# Altium integrated library Xilinx CoolRunner XPLA3.IntLib: 110 symbols (part 2 of 7)
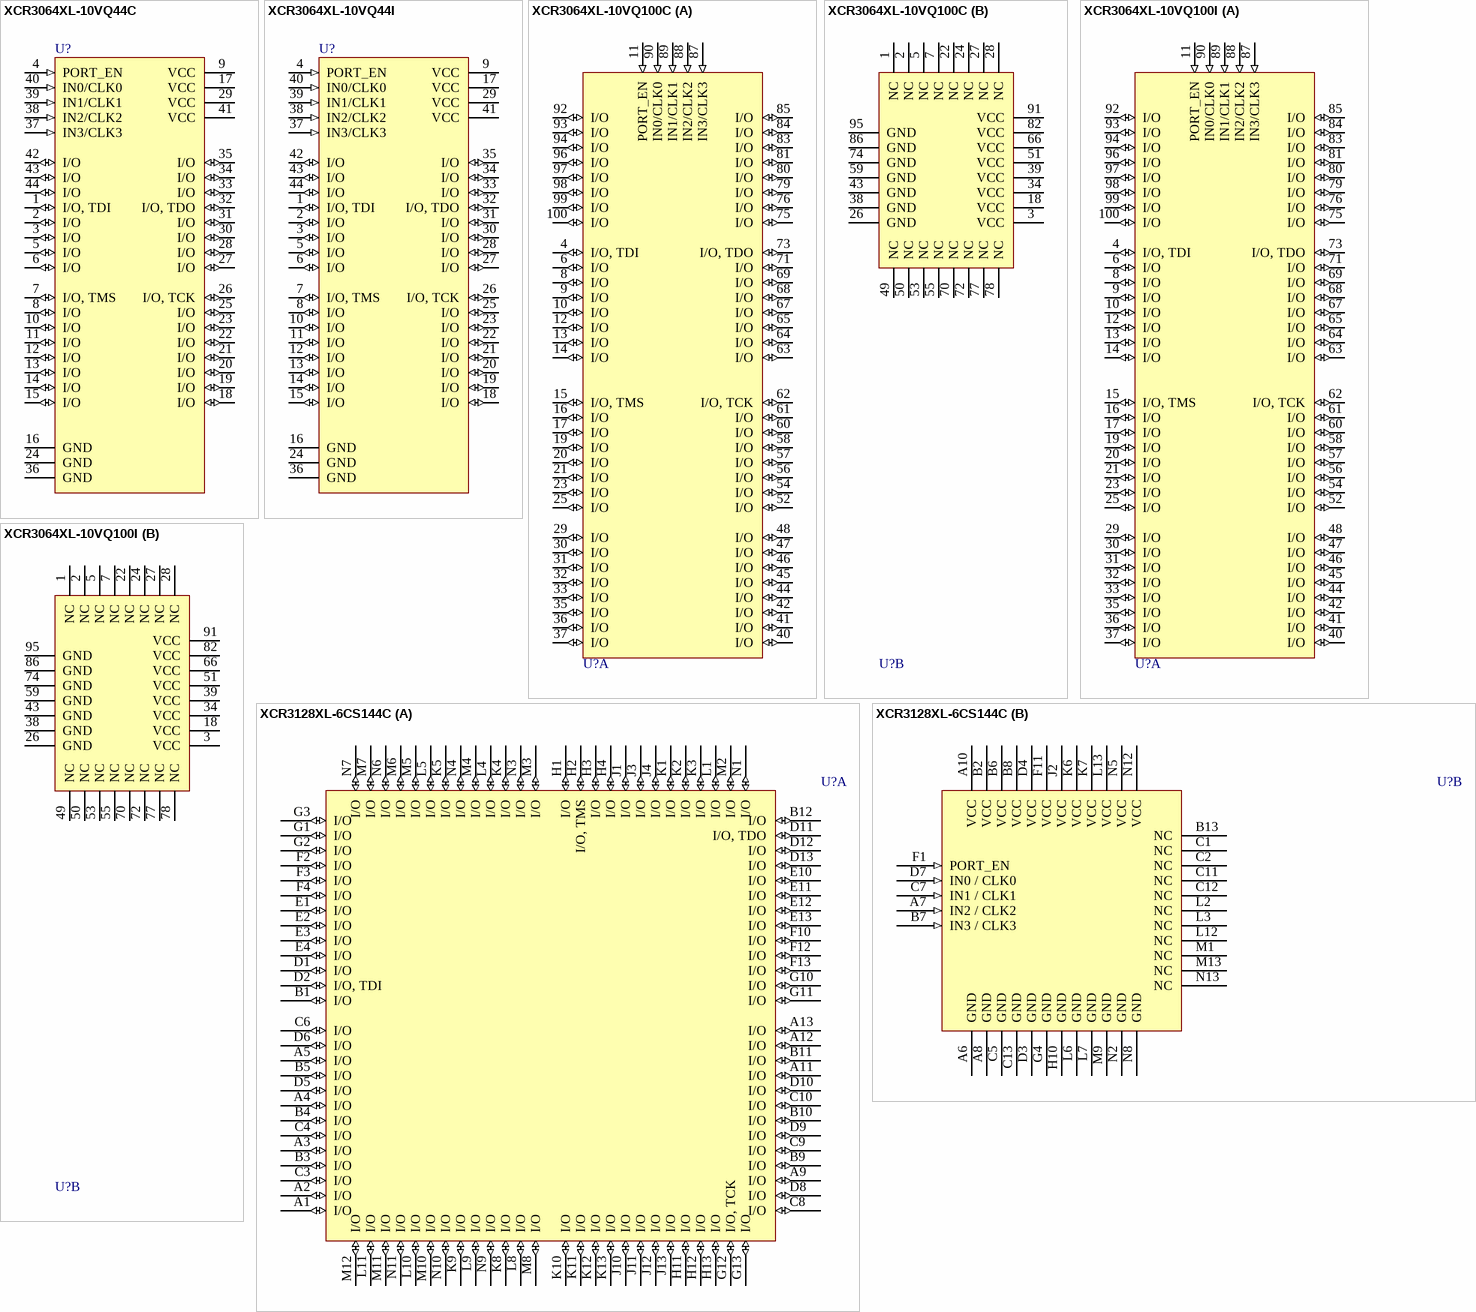
[diagram p65: symbols XCR3064XL-10VQ44C to XCR3128XL-6CS144C]

## XCR3128XL-6CS144C
designator U?
CoolRunner XPLA3, 3.3V, 128 Macrocell CPLD, 144-Ball CSBGA, Commercial Grade; PackageDocument: ver1.0, Jun-2000; Published: 17-Sep-2003; DatasheetDocument: ver2.2, Feb-2004; PackageReference: CS144; Publisher: Altium Limited
footprint CS144 (144-Ball Chip Scale Ball Grid Array (CS144))
3D model XCR3128XL-CS144 (144-Ball Chip Scale Ball Grid Array (CS144))
signal-integrity model XCR3128XL_CS144 (CoolRunner XPLA3)
part A pins: A1 I/O (io), A2 I/O (io), A3 I/O (io), A4 I/O (io), A5 I/O (io), A9 I/O (io), A11 I/O (io), A12 I/O (io), A13 I/O (io), B1 I/O (io), B3 I/O (io), B4 I/O (io), B5 I/O (io), B9 I/O (io), B10 I/O (io), B11 I/O (io), B12 I/O (io), C3 I/O (io), C4 I/O (io), C6 I/O (io), C8 I/O (io), C9 I/O (io), C10 I/O (io), D1 I/O (io), D2 I/O, TDI (io), D5 I/O (io), D6 I/O (io), D8 I/O (io), D9 I/O (io), D10 I/O (io), D11 I/O, TDO (io), D12 I/O (io), D13 I/O (io), E1 I/O (io), E2 I/O (io), E3 I/O (io), E4 I/O (io), E10 I/O (io), E11 I/O (io), E12 I/O (io), E13 I/O (io), F2 I/O (io), F3 I/O (io), F4 I/O (io), F10 I/O (io), F12 I/O (io), F13 I/O (io), G1 I/O (io), G2 I/O (io), G3 I/O (io), G10 I/O (io), G11 I/O (io), G12 I/O, TCK (io), G13 I/O (io), H1 I/O (io), H2 I/O, TMS (io), H3 I/O (io), H4 I/O (io), H11 I/O (io), H12 I/O (io), H13 I/O (io), J1 I/O (io), J3 I/O (io), J4 I/O (io), J10 I/O (io), J11 I/O (io), J12 I/O (io), J13 I/O (io), K1 I/O (io), K2 I/O (io), K3 I/O (io), K4 I/O (io), K5 I/O (io), K8 I/O (io), K9 I/O (io), K10 I/O (io), K11 I/O (io), K12 I/O (io), K13 I/O (io), L1 I/O (io), L4 I/O (io), L5 I/O (io), L8 I/O (io), L9 I/O (io), L10 I/O (io), L11 I/O (io), M2 I/O (io), M3 I/O (io), M4 I/O (io), M5 I/O (io), M6 I/O (io), M7 I/O (io), M8 I/O (io), M10 I/O (io), M11 I/O (io), M12 I/O (io), N1 I/O (io), N3 I/O (io), N4 I/O (io), N6 I/O (io), N7 I/O (io), N9 I/O (io), N10 I/O (io), N11 I/O (io)
part B pins: A6 GND (power), A7 IN2 / CLK2 (in), A8 GND (power), A10 VCC (power), B2 VCC (power), B6 VCC (power), B7 IN3 / CLK3 (in), B8 VCC (power), B13 NC, C1 NC, C2 NC, C5 GND (power), C7 IN1 / CLK1 (in), C11 NC, C12 NC, C13 GND (power), D3 GND (power), D4 VCC (power), D7 IN0 / CLK0 (in), F1 PORT_EN (in), F11 VCC (power), G4 GND (power), H10 GND (power), J2 VCC (power), K6 VCC (power), K7 VCC (power), L2 NC, L3 NC, L6 GND (power), L7 GND (power), L12 NC, L13 VCC (power), M1 NC, M9 GND (power), M13 NC, N2 GND (power), N5 VCC (power), N8 GND (power), N12 VCC (power), N13 NC

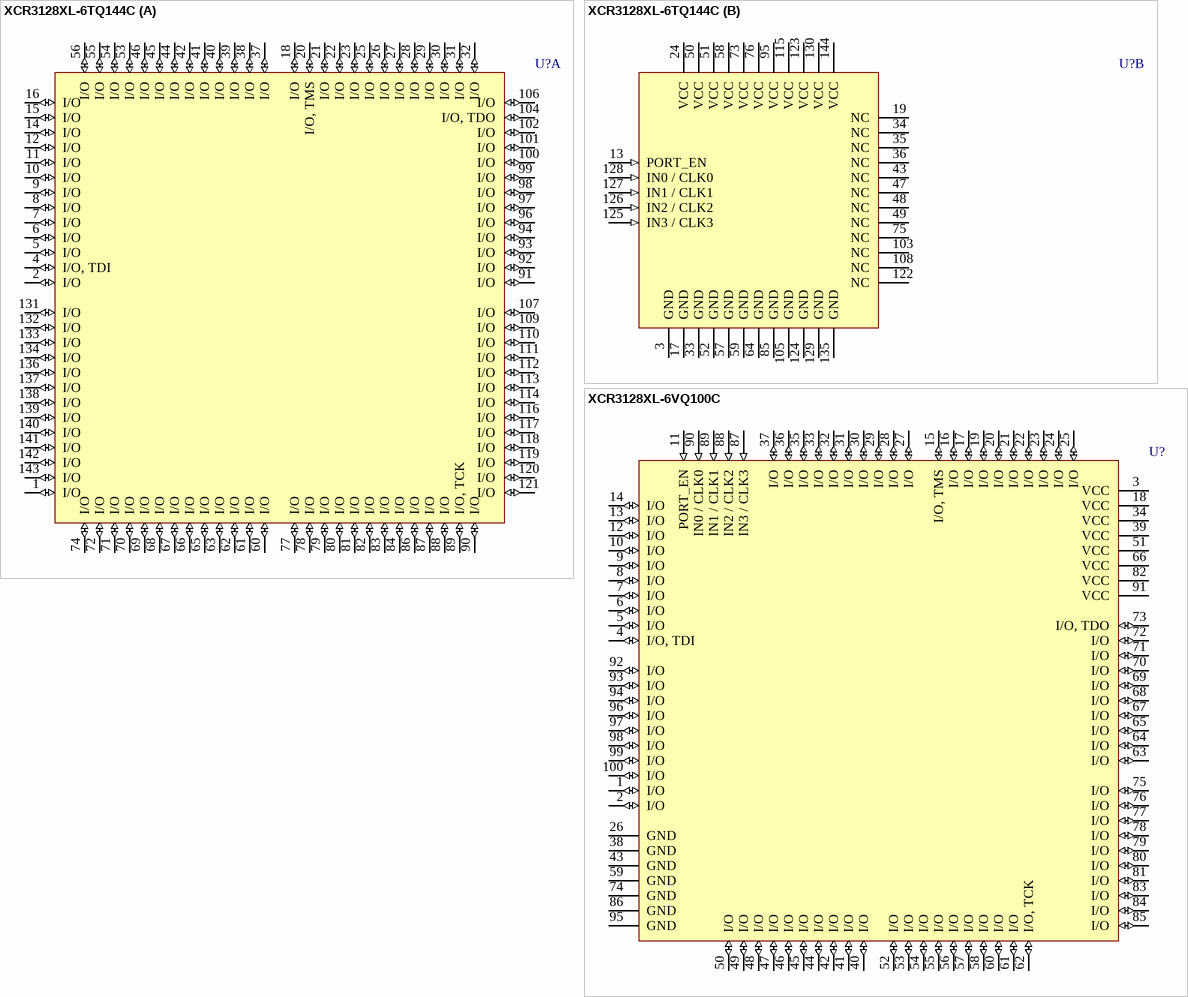
[diagram p4: symbols XCR3128XL-6TQ144C to XCR3128XL-6VQ100C]

## XCR3128XL-6TQ144C
designator U?
CoolRunner XPLA3, 3.3V, 128 Macrocell CPLD, 144-Pin TQFP, Commercial Grade; PackageDocument: ver1.1, Oct-2002; Published: 17-Sep-2003; DatasheetDocument: ver2.2, Feb-2004; PackageReference: TQ144; Publisher: Altium Limited; Code_JEDEC: MS-026-BFB; Code_IPC: SQFP20X20-144
footprint TQ144 (144-Pin Thin Quad Flat Pack (TQ144))
3D model XCR3128XL-TQ144 (144-Pin Thin Quad Flat Pack (TQ144))
signal-integrity model XCR3128XL_TQ144 (CoolRunner XPLA3)
part A pins: 1 I/O (io), 2 I/O (io), 4 I/O, TDI (io), 5 I/O (io), 6 I/O (io), 7 I/O (io), 8 I/O (io), 9 I/O (io), 10 I/O (io), 11 I/O (io), 12 I/O (io), 14 I/O (io), 15 I/O (io), 16 I/O (io), 18 I/O (io), 20 I/O, TMS (io), 21 I/O (io), 22 I/O (io), 23 I/O (io), 25 I/O (io), 26 I/O (io), 27 I/O (io), 28 I/O (io), 29 I/O (io), 30 I/O (io), 31 I/O (io), 32 I/O (io), 37 I/O (io), 38 I/O (io), 39 I/O (io), 40 I/O (io), 41 I/O (io), 42 I/O (io), 44 I/O (io), 45 I/O (io), 46 I/O (io), 53 I/O (io), 54 I/O (io), 55 I/O (io), 56 I/O (io), 60 I/O (io), 61 I/O (io), 62 I/O (io), 63 I/O (io), 65 I/O (io), 66 I/O (io), 67 I/O (io), 68 I/O (io), 69 I/O (io), 70 I/O (io), 71 I/O (io), 72 I/O (io), 74 I/O (io), 77 I/O (io), 78 I/O (io), 79 I/O (io), 80 I/O (io), 81 I/O (io), 82 I/O (io), 83 I/O (io), 84 I/O (io), 86 I/O (io), 87 I/O (io), 88 I/O (io), 89 I/O, TCK (io), 90 I/O (io), 91 I/O (io), 92 I/O (io), 93 I/O (io), 94 I/O (io), 96 I/O (io), 97 I/O (io), 98 I/O (io), 99 I/O (io), 100 I/O (io), 101 I/O (io), 102 I/O (io), 104 I/O, TDO (io), 106 I/O (io), 107 I/O (io), 109 I/O (io), 110 I/O (io), 111 I/O (io), 112 I/O (io), 113 I/O (io), 114 I/O (io), 116 I/O (io), 117 I/O (io), 118 I/O (io), 119 I/O (io), 120 I/O (io), 121 I/O (io), 131 I/O (io), 132 I/O (io), 133 I/O (io), 134 I/O (io), 136 I/O (io), 137 I/O (io), 138 I/O (io), 139 I/O (io), 140 I/O (io), 141 I/O (io), 142 I/O (io), 143 I/O (io)
part B pins: 3 GND (power), 13 PORT_EN (in), 17 GND (power), 19 NC, 24 VCC (power), 33 GND (power), 34 NC, 35 NC, 36 NC, 43 NC, 47 NC, 48 NC, 49 NC, 50 VCC (power), 51 VCC (power), 52 GND (power), 57 GND (power), 58 VCC (power), 59 GND (power), 64 GND (power), 73 VCC (power), 75 NC, 76 VCC (power), 85 GND (power), 95 VCC (power), 103 NC, 105 GND (power), 108 NC, 115 VCC (power), 122 NC, 123 VCC (power), 124 GND (power), 125 IN3 / CLK3 (in), 126 IN2 / CLK2 (in), 127 IN1 / CLK1 (in), 128 IN0 / CLK0 (in), 129 GND (power), 130 VCC (power), 135 GND (power), 144 VCC (power)

## XCR3128XL-6VQ100C
designator U?
CoolRunner XPLA3, 3.3V, 128 Macrocell CPLD, 100-Pin VQFP, Commercial Grade; PackageDocument: ver1.1, Oct-2002; Published: 17-Sep-2003; DatasheetDocument: ver2.2, Feb-2004; PackageReference: VQ100; Publisher: Altium Limited; Code_JEDEC: MS-026-AED; Code_IPC: SQFP14X14-100
footprint VQ100 (100-Pin Very Thin Quad Flat Pack (VQ100))
3D model XCR3128XL-VQ100 (100-Pin Very Thin Quad Flat Pack (VQ100))
signal-integrity model XCR3128XL_VQ100 (CoolRunner XPLA3)
pins: 1 I/O (io), 2 I/O (io), 3 VCC (power), 4 I/O, TDI (io), 5 I/O (io), 6 I/O (io), 7 I/O (io), 8 I/O (io), 9 I/O (io), 10 I/O (io), 11 PORT_EN (in), 12 I/O (io), 13 I/O (io), 14 I/O (io), 15 I/O, TMS (io), 16 I/O (io), 17 I/O (io), 18 VCC (power), 19 I/O (io), 20 I/O (io), 21 I/O (io), 22 I/O (io), 23 I/O (io), 24 I/O (io), 25 I/O (io), 26 GND (power), 27 I/O (io), 28 I/O (io), 29 I/O (io), 30 I/O (io), 31 I/O (io), 32 I/O (io), 33 I/O (io), 34 VCC (power), 35 I/O (io), 36 I/O (io), 37 I/O (io), 38 GND (power), 39 VCC (power), 40 I/O (io), 41 I/O (io), 42 I/O (io), 43 GND (power), 44 I/O (io), 45 I/O (io), 46 I/O (io), 47 I/O (io), 48 I/O (io), 49 I/O (io), 50 I/O (io), 51 VCC (power), 52 I/O (io), 53 I/O (io), 54 I/O (io), 55 I/O (io), 56 I/O (io), 57 I/O (io), 58 I/O (io), 59 GND (power), 60 I/O (io), 61 I/O (io), 62 I/O, TCK (io), 63 I/O (io), 64 I/O (io), 65 I/O (io), 66 VCC (power), 67 I/O (io), 68 I/O (io), 69 I/O (io), 70 I/O (io), 71 I/O (io), 72 I/O (io), 73 I/O, TDO (io), 74 GND (power), 75 I/O (io), 76 I/O (io), 77 I/O (io), 78 I/O (io), 79 I/O (io), 80 I/O (io), 81 I/O (io), 82 VCC (power), 83 I/O (io), 84 I/O (io), 85 I/O (io), 86 GND (power), 87 IN3 / CLK3 (in), 88 IN2 / CLK2 (in), 89 IN1 / CLK1 (in), 90 IN0 / CLK0 (in), 91 VCC (power), 92 I/O (io), 93 I/O (io), 94 I/O (io), 95 GND (power), 96 I/O (io), 97 I/O (io), 98 I/O (io), 99 I/O (io), 100 I/O (io)

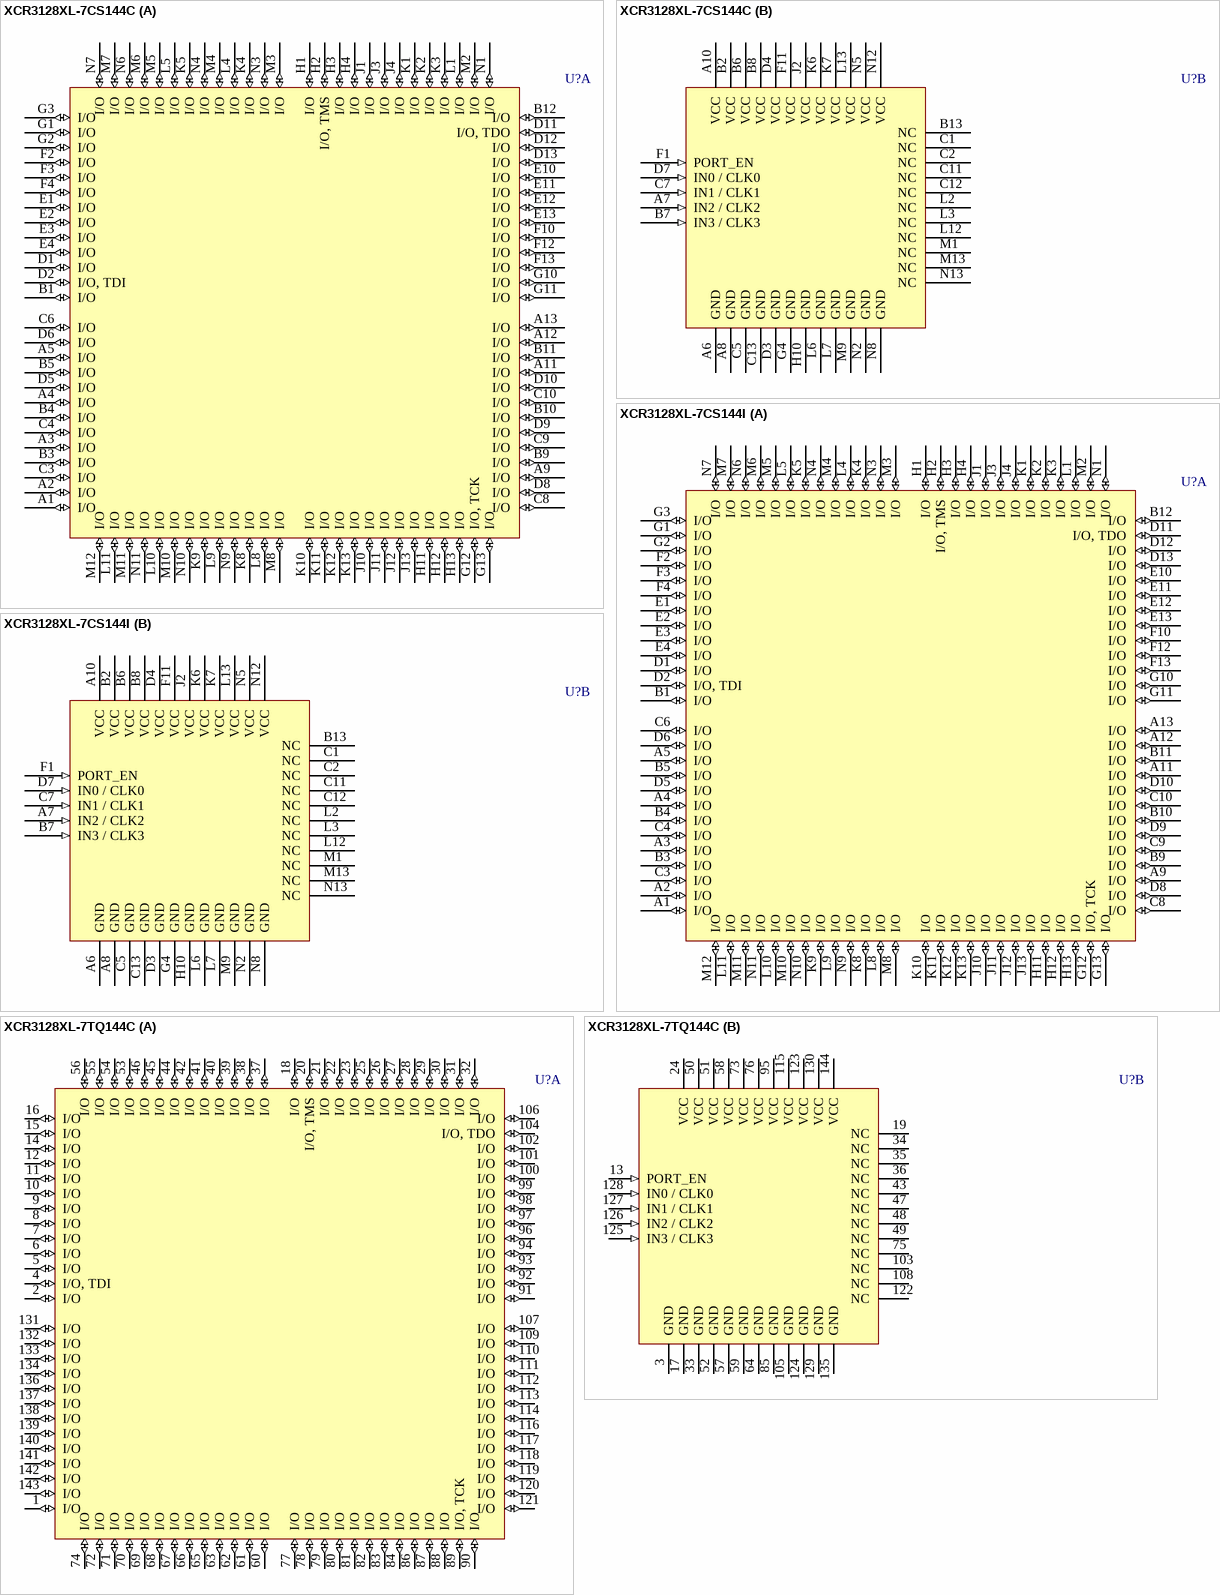
[diagram p5: symbols XCR3128XL-7CS144C to XCR3128XL-7TQ144C]

## XCR3128XL-7CS144C
designator U?
CoolRunner XPLA3, 3.3V, 128 Macrocell CPLD, 144-Ball CSBGA, Commercial Grade; PackageDocument: ver1.0, Jun-2000; Published: 17-Jul-2002; LatestRevisionDate: 17-Sep-2003; LatestRevisionNote: PCB Footprint dimensions updated; DatasheetDocument: ver2.2, Feb-2004; PackageReference: CS144; Publisher: Altium Limited
footprint CS144 (144-Ball Chip Scale Ball Grid Array (CS144))
3D model XCR3128XL-CS144 (144-Ball Chip Scale Ball Grid Array (CS144))
signal-integrity model XCR3128XL_CS144 (CoolRunner XPLA3)
part A pins: A1 I/O (io), A2 I/O (io), A3 I/O (io), A4 I/O (io), A5 I/O (io), A9 I/O (io), A11 I/O (io), A12 I/O (io), A13 I/O (io), B1 I/O (io), B3 I/O (io), B4 I/O (io), B5 I/O (io), B9 I/O (io), B10 I/O (io), B11 I/O (io), B12 I/O (io), C3 I/O (io), C4 I/O (io), C6 I/O (io), C8 I/O (io), C9 I/O (io), C10 I/O (io), D1 I/O (io), D2 I/O, TDI (io), D5 I/O (io), D6 I/O (io), D8 I/O (io), D9 I/O (io), D10 I/O (io), D11 I/O, TDO (io), D12 I/O (io), D13 I/O (io), E1 I/O (io), E2 I/O (io), E3 I/O (io), E4 I/O (io), E10 I/O (io), E11 I/O (io), E12 I/O (io), E13 I/O (io), F2 I/O (io), F3 I/O (io), F4 I/O (io), F10 I/O (io), F12 I/O (io), F13 I/O (io), G1 I/O (io), G2 I/O (io), G3 I/O (io), G10 I/O (io), G11 I/O (io), G12 I/O, TCK (io), G13 I/O (io), H1 I/O (io), H2 I/O, TMS (io), H3 I/O (io), H4 I/O (io), H11 I/O (io), H12 I/O (io), H13 I/O (io), J1 I/O (io), J3 I/O (io), J4 I/O (io), J10 I/O (io), J11 I/O (io), J12 I/O (io), J13 I/O (io), K1 I/O (io), K2 I/O (io), K3 I/O (io), K4 I/O (io), K5 I/O (io), K8 I/O (io), K9 I/O (io), K10 I/O (io), K11 I/O (io), K12 I/O (io), K13 I/O (io), L1 I/O (io), L4 I/O (io), L5 I/O (io), L8 I/O (io), L9 I/O (io), L10 I/O (io), L11 I/O (io), M2 I/O (io), M3 I/O (io), M4 I/O (io), M5 I/O (io), M6 I/O (io), M7 I/O (io), M8 I/O (io), M10 I/O (io), M11 I/O (io), M12 I/O (io), N1 I/O (io), N3 I/O (io), N4 I/O (io), N6 I/O (io), N7 I/O (io), N9 I/O (io), N10 I/O (io), N11 I/O (io)
part B pins: A6 GND (power), A7 IN2 / CLK2 (in), A8 GND (power), A10 VCC (power), B2 VCC (power), B6 VCC (power), B7 IN3 / CLK3 (in), B8 VCC (power), B13 NC, C1 NC, C2 NC, C5 GND (power), C7 IN1 / CLK1 (in), C11 NC, C12 NC, C13 GND (power), D3 GND (power), D4 VCC (power), D7 IN0 / CLK0 (in), F1 PORT_EN (in), F11 VCC (power), G4 GND (power), H10 GND (power), J2 VCC (power), K6 VCC (power), K7 VCC (power), L2 NC, L3 NC, L6 GND (power), L7 GND (power), L12 NC, L13 VCC (power), M1 NC, M9 GND (power), M13 NC, N2 GND (power), N5 VCC (power), N8 GND (power), N12 VCC (power), N13 NC

## XCR3128XL-7CS144I
designator U?
CoolRunner XPLA3, 3.3V, 128 Macrocell CPLD, 144-Ball CSBGA, Industrial Grade; PackageDocument: ver1.0, Jun-2000; Published: 17-Sep-2003; DatasheetDocument: ver2.2, Feb-2004; PackageReference: CS144; Publisher: Altium Limited
footprint CS144 (144-Ball Chip Scale Ball Grid Array (CS144))
3D model XCR3128XL-CS144 (144-Ball Chip Scale Ball Grid Array (CS144))
signal-integrity model XCR3128XL_CS144 (CoolRunner XPLA3)
part A pins: A1 I/O (io), A2 I/O (io), A3 I/O (io), A4 I/O (io), A5 I/O (io), A9 I/O (io), A11 I/O (io), A12 I/O (io), A13 I/O (io), B1 I/O (io), B3 I/O (io), B4 I/O (io), B5 I/O (io), B9 I/O (io), B10 I/O (io), B11 I/O (io), B12 I/O (io), C3 I/O (io), C4 I/O (io), C6 I/O (io), C8 I/O (io), C9 I/O (io), C10 I/O (io), D1 I/O (io), D2 I/O, TDI (io), D5 I/O (io), D6 I/O (io), D8 I/O (io), D9 I/O (io), D10 I/O (io), D11 I/O, TDO (io), D12 I/O (io), D13 I/O (io), E1 I/O (io), E2 I/O (io), E3 I/O (io), E4 I/O (io), E10 I/O (io), E11 I/O (io), E12 I/O (io), E13 I/O (io), F2 I/O (io), F3 I/O (io), F4 I/O (io), F10 I/O (io), F12 I/O (io), F13 I/O (io), G1 I/O (io), G2 I/O (io), G3 I/O (io), G10 I/O (io), G11 I/O (io), G12 I/O, TCK (io), G13 I/O (io), H1 I/O (io), H2 I/O, TMS (io), H3 I/O (io), H4 I/O (io), H11 I/O (io), H12 I/O (io), H13 I/O (io), J1 I/O (io), J3 I/O (io), J4 I/O (io), J10 I/O (io), J11 I/O (io), J12 I/O (io), J13 I/O (io), K1 I/O (io), K2 I/O (io), K3 I/O (io), K4 I/O (io), K5 I/O (io), K8 I/O (io), K9 I/O (io), K10 I/O (io), K11 I/O (io), K12 I/O (io), K13 I/O (io), L1 I/O (io), L4 I/O (io), L5 I/O (io), L8 I/O (io), L9 I/O (io), L10 I/O (io), L11 I/O (io), M2 I/O (io), M3 I/O (io), M4 I/O (io), M5 I/O (io), M6 I/O (io), M7 I/O (io), M8 I/O (io), M10 I/O (io), M11 I/O (io), M12 I/O (io), N1 I/O (io), N3 I/O (io), N4 I/O (io), N6 I/O (io), N7 I/O (io), N9 I/O (io), N10 I/O (io), N11 I/O (io)
part B pins: A6 GND (power), A7 IN2 / CLK2 (in), A8 GND (power), A10 VCC (power), B2 VCC (power), B6 VCC (power), B7 IN3 / CLK3 (in), B8 VCC (power), B13 NC, C1 NC, C2 NC, C5 GND (power), C7 IN1 / CLK1 (in), C11 NC, C12 NC, C13 GND (power), D3 GND (power), D4 VCC (power), D7 IN0 / CLK0 (in), F1 PORT_EN (in), F11 VCC (power), G4 GND (power), H10 GND (power), J2 VCC (power), K6 VCC (power), K7 VCC (power), L2 NC, L3 NC, L6 GND (power), L7 GND (power), L12 NC, L13 VCC (power), M1 NC, M9 GND (power), M13 NC, N2 GND (power), N5 VCC (power), N8 GND (power), N12 VCC (power), N13 NC

## XCR3128XL-7TQ144C
designator U?
CoolRunner XPLA3, 3.3V, 128 Macrocell CPLD, 144-Pin TQFP, Commercial Grade; PackageDocument: ver1.1, Oct-2002; Published: 17-Jul-2002; DatasheetDocument: ver2.2, Feb-2004; PackageReference: TQ144; Publisher: Altium Limited; Code_JEDEC: MS-026-BFB; Code_IPC: SQFP20X20-144
footprint TQ144 (144-Pin Thin Quad Flat Pack (TQ144))
3D model XCR3128XL-TQ144 (144-Pin Thin Quad Flat Pack (TQ144))
signal-integrity model XCR3128XL_TQ144 (CoolRunner XPLA3)
part A pins: 1 I/O (io), 2 I/O (io), 4 I/O, TDI (io), 5 I/O (io), 6 I/O (io), 7 I/O (io), 8 I/O (io), 9 I/O (io), 10 I/O (io), 11 I/O (io), 12 I/O (io), 14 I/O (io), 15 I/O (io), 16 I/O (io), 18 I/O (io), 20 I/O, TMS (io), 21 I/O (io), 22 I/O (io), 23 I/O (io), 25 I/O (io), 26 I/O (io), 27 I/O (io), 28 I/O (io), 29 I/O (io), 30 I/O (io), 31 I/O (io), 32 I/O (io), 37 I/O (io), 38 I/O (io), 39 I/O (io), 40 I/O (io), 41 I/O (io), 42 I/O (io), 44 I/O (io), 45 I/O (io), 46 I/O (io), 53 I/O (io), 54 I/O (io), 55 I/O (io), 56 I/O (io), 60 I/O (io), 61 I/O (io), 62 I/O (io), 63 I/O (io), 65 I/O (io), 66 I/O (io), 67 I/O (io), 68 I/O (io), 69 I/O (io), 70 I/O (io), 71 I/O (io), 72 I/O (io), 74 I/O (io), 77 I/O (io), 78 I/O (io), 79 I/O (io), 80 I/O (io), 81 I/O (io), 82 I/O (io), 83 I/O (io), 84 I/O (io), 86 I/O (io), 87 I/O (io), 88 I/O (io), 89 I/O, TCK (io), 90 I/O (io), 91 I/O (io), 92 I/O (io), 93 I/O (io), 94 I/O (io), 96 I/O (io), 97 I/O (io), 98 I/O (io), 99 I/O (io), 100 I/O (io), 101 I/O (io), 102 I/O (io), 104 I/O, TDO (io), 106 I/O (io), 107 I/O (io), 109 I/O (io), 110 I/O (io), 111 I/O (io), 112 I/O (io), 113 I/O (io), 114 I/O (io), 116 I/O (io), 117 I/O (io), 118 I/O (io), 119 I/O (io), 120 I/O (io), 121 I/O (io), 131 I/O (io), 132 I/O (io), 133 I/O (io), 134 I/O (io), 136 I/O (io), 137 I/O (io), 138 I/O (io), 139 I/O (io), 140 I/O (io), 141 I/O (io), 142 I/O (io), 143 I/O (io)
part B pins: 3 GND (power), 13 PORT_EN (in), 17 GND (power), 19 NC, 24 VCC (power), 33 GND (power), 34 NC, 35 NC, 36 NC, 43 NC, 47 NC, 48 NC, 49 NC, 50 VCC (power), 51 VCC (power), 52 GND (power), 57 GND (power), 58 VCC (power), 59 GND (power), 64 GND (power), 73 VCC (power), 75 NC, 76 VCC (power), 85 GND (power), 95 VCC (power), 103 NC, 105 GND (power), 108 NC, 115 VCC (power), 122 NC, 123 VCC (power), 124 GND (power), 125 IN3 / CLK3 (in), 126 IN2 / CLK2 (in), 127 IN1 / CLK1 (in), 128 IN0 / CLK0 (in), 129 GND (power), 130 VCC (power), 135 GND (power), 144 VCC (power)

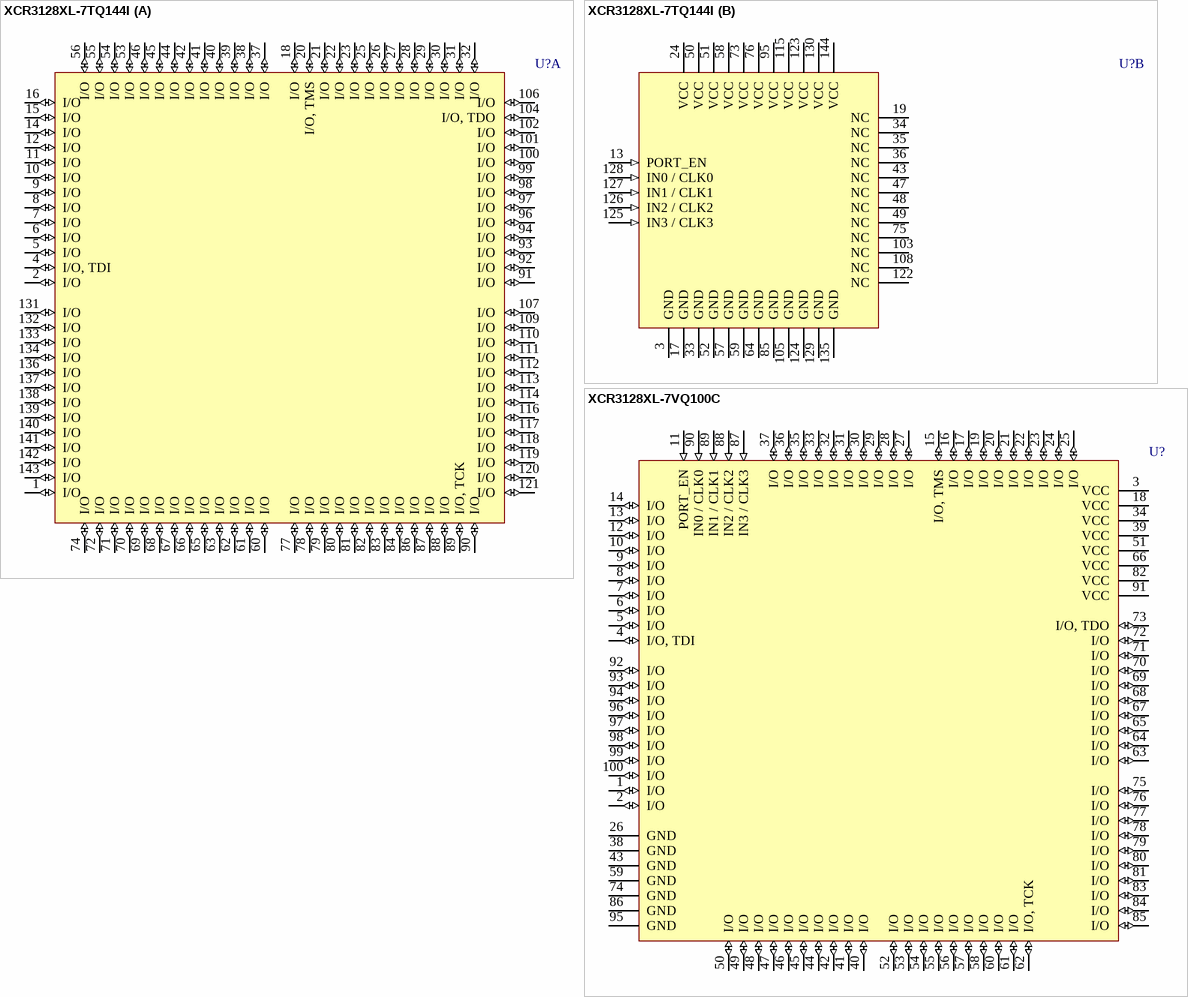
[diagram p6: symbols XCR3128XL-7TQ144I to XCR3128XL-7VQ100C]

## XCR3128XL-7TQ144I
designator U?
CoolRunner XPLA3, 3.3V, 128 Macrocell CPLD, 144-Pin TQFP, Industrial Grade; PackageDocument: ver1.1, Oct-2002; Published: 17-Sep-2003; DatasheetDocument: ver2.2, Feb-2004; PackageReference: TQ144; Publisher: Altium Limited; Code_JEDEC: MS-026-BFB; Code_IPC: SQFP20X20-144
footprint TQ144 (144-Pin Thin Quad Flat Pack (TQ144))
3D model XCR3128XL-TQ144 (144-Pin Thin Quad Flat Pack (TQ144))
signal-integrity model XCR3128XL_TQ144 (CoolRunner XPLA3)
part A pins: 1 I/O (io), 2 I/O (io), 4 I/O, TDI (io), 5 I/O (io), 6 I/O (io), 7 I/O (io), 8 I/O (io), 9 I/O (io), 10 I/O (io), 11 I/O (io), 12 I/O (io), 14 I/O (io), 15 I/O (io), 16 I/O (io), 18 I/O (io), 20 I/O, TMS (io), 21 I/O (io), 22 I/O (io), 23 I/O (io), 25 I/O (io), 26 I/O (io), 27 I/O (io), 28 I/O (io), 29 I/O (io), 30 I/O (io), 31 I/O (io), 32 I/O (io), 37 I/O (io), 38 I/O (io), 39 I/O (io), 40 I/O (io), 41 I/O (io), 42 I/O (io), 44 I/O (io), 45 I/O (io), 46 I/O (io), 53 I/O (io), 54 I/O (io), 55 I/O (io), 56 I/O (io), 60 I/O (io), 61 I/O (io), 62 I/O (io), 63 I/O (io), 65 I/O (io), 66 I/O (io), 67 I/O (io), 68 I/O (io), 69 I/O (io), 70 I/O (io), 71 I/O (io), 72 I/O (io), 74 I/O (io), 77 I/O (io), 78 I/O (io), 79 I/O (io), 80 I/O (io), 81 I/O (io), 82 I/O (io), 83 I/O (io), 84 I/O (io), 86 I/O (io), 87 I/O (io), 88 I/O (io), 89 I/O, TCK (io), 90 I/O (io), 91 I/O (io), 92 I/O (io), 93 I/O (io), 94 I/O (io), 96 I/O (io), 97 I/O (io), 98 I/O (io), 99 I/O (io), 100 I/O (io), 101 I/O (io), 102 I/O (io), 104 I/O, TDO (io), 106 I/O (io), 107 I/O (io), 109 I/O (io), 110 I/O (io), 111 I/O (io), 112 I/O (io), 113 I/O (io), 114 I/O (io), 116 I/O (io), 117 I/O (io), 118 I/O (io), 119 I/O (io), 120 I/O (io), 121 I/O (io), 131 I/O (io), 132 I/O (io), 133 I/O (io), 134 I/O (io), 136 I/O (io), 137 I/O (io), 138 I/O (io), 139 I/O (io), 140 I/O (io), 141 I/O (io), 142 I/O (io), 143 I/O (io)
part B pins: 3 GND (power), 13 PORT_EN (in), 17 GND (power), 19 NC, 24 VCC (power), 33 GND (power), 34 NC, 35 NC, 36 NC, 43 NC, 47 NC, 48 NC, 49 NC, 50 VCC (power), 51 VCC (power), 52 GND (power), 57 GND (power), 58 VCC (power), 59 GND (power), 64 GND (power), 73 VCC (power), 75 NC, 76 VCC (power), 85 GND (power), 95 VCC (power), 103 NC, 105 GND (power), 108 NC, 115 VCC (power), 122 NC, 123 VCC (power), 124 GND (power), 125 IN3 / CLK3 (in), 126 IN2 / CLK2 (in), 127 IN1 / CLK1 (in), 128 IN0 / CLK0 (in), 129 GND (power), 130 VCC (power), 135 GND (power), 144 VCC (power)

## XCR3128XL-7VQ100C
designator U?
CoolRunner XPLA3, 3.3V, 128 Macrocell CPLD, 100-Pin VQFP, Commercial Grade; PackageDocument: ver1.1, Oct-2002; Published: 17-Jul-2002; DatasheetDocument: ver2.2, Feb-2004; PackageReference: VQ100; Publisher: Altium Limited; Code_JEDEC: MS-026-AED; Code_IPC: SQFP14X14-100
footprint VQ100 (100-Pin Very Thin Quad Flat Pack (VQ100))
3D model XCR3128XL-VQ100 (100-Pin Very Thin Quad Flat Pack (VQ100))
signal-integrity model XCR3128XL_VQ100 (CoolRunner XPLA3)
pins: 1 I/O (io), 2 I/O (io), 3 VCC (power), 4 I/O, TDI (io), 5 I/O (io), 6 I/O (io), 7 I/O (io), 8 I/O (io), 9 I/O (io), 10 I/O (io), 11 PORT_EN (in), 12 I/O (io), 13 I/O (io), 14 I/O (io), 15 I/O, TMS (io), 16 I/O (io), 17 I/O (io), 18 VCC (power), 19 I/O (io), 20 I/O (io), 21 I/O (io), 22 I/O (io), 23 I/O (io), 24 I/O (io), 25 I/O (io), 26 GND (power), 27 I/O (io), 28 I/O (io), 29 I/O (io), 30 I/O (io), 31 I/O (io), 32 I/O (io), 33 I/O (io), 34 VCC (power), 35 I/O (io), 36 I/O (io), 37 I/O (io), 38 GND (power), 39 VCC (power), 40 I/O (io), 41 I/O (io), 42 I/O (io), 43 GND (power), 44 I/O (io), 45 I/O (io), 46 I/O (io), 47 I/O (io), 48 I/O (io), 49 I/O (io), 50 I/O (io), 51 VCC (power), 52 I/O (io), 53 I/O (io), 54 I/O (io), 55 I/O (io), 56 I/O (io), 57 I/O (io), 58 I/O (io), 59 GND (power), 60 I/O (io), 61 I/O (io), 62 I/O, TCK (io), 63 I/O (io), 64 I/O (io), 65 I/O (io), 66 VCC (power), 67 I/O (io), 68 I/O (io), 69 I/O (io), 70 I/O (io), 71 I/O (io), 72 I/O (io), 73 I/O, TDO (io), 74 GND (power), 75 I/O (io), 76 I/O (io), 77 I/O (io), 78 I/O (io), 79 I/O (io), 80 I/O (io), 81 I/O (io), 82 VCC (power), 83 I/O (io), 84 I/O (io), 85 I/O (io), 86 GND (power), 87 IN3 / CLK3 (in), 88 IN2 / CLK2 (in), 89 IN1 / CLK1 (in), 90 IN0 / CLK0 (in), 91 VCC (power), 92 I/O (io), 93 I/O (io), 94 I/O (io), 95 GND (power), 96 I/O (io), 97 I/O (io), 98 I/O (io), 99 I/O (io), 100 I/O (io)

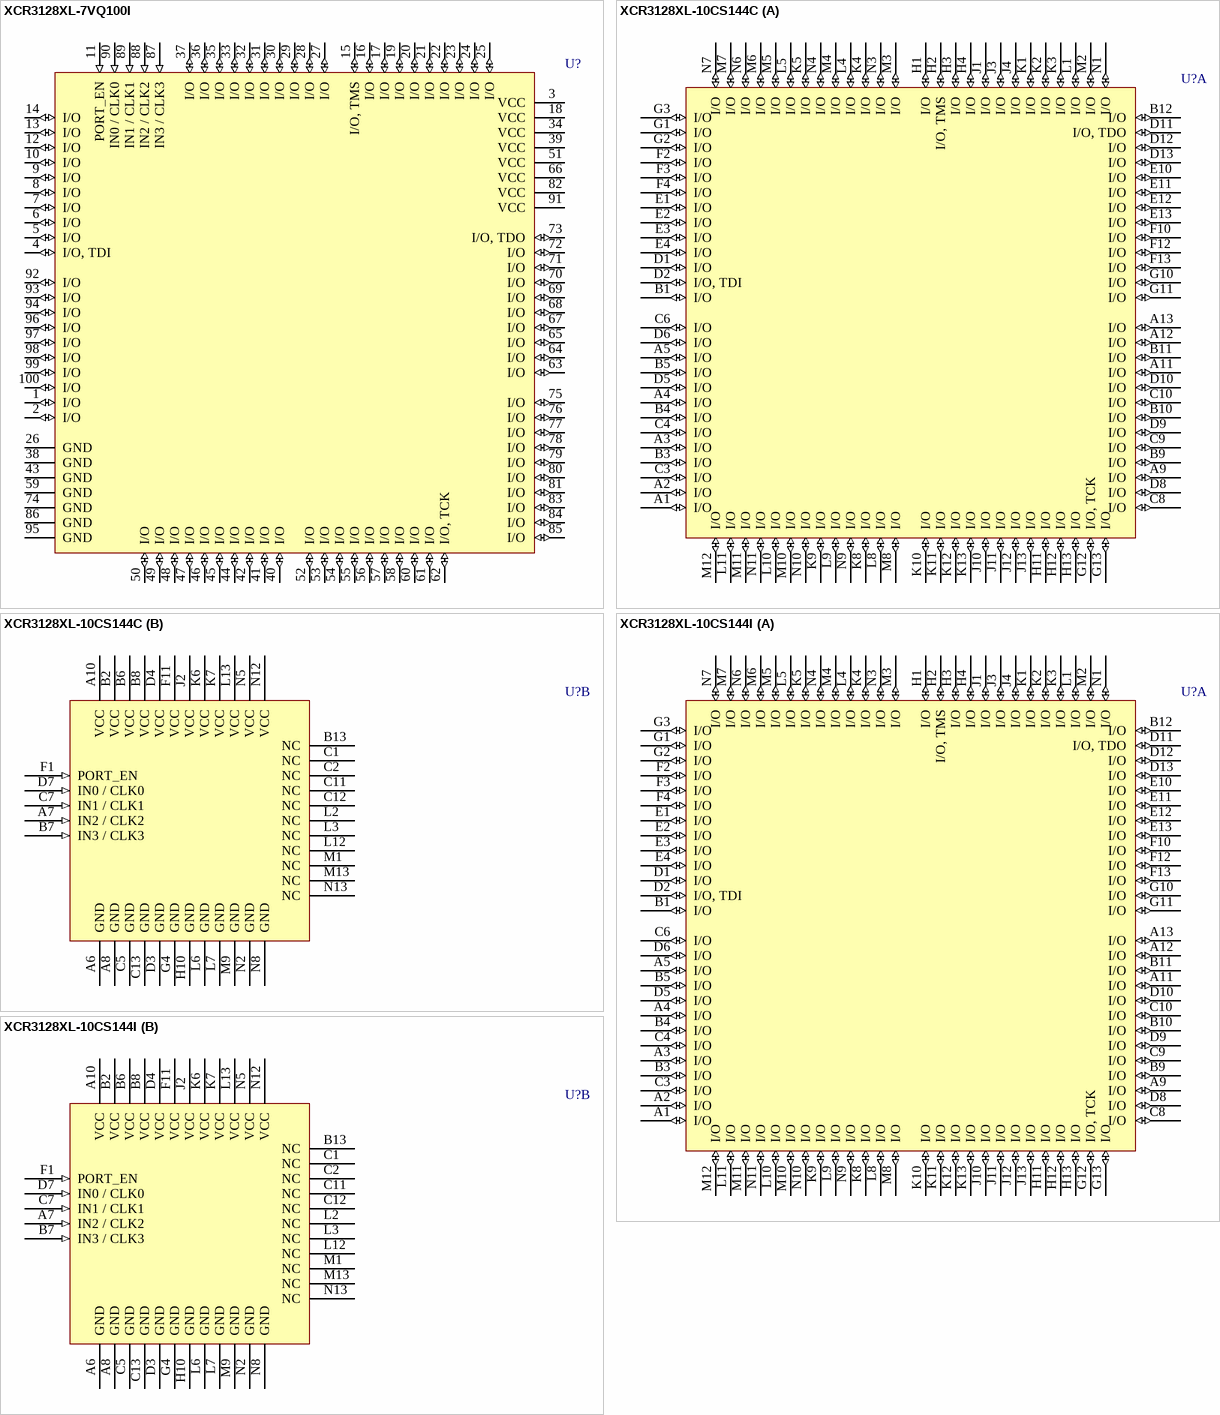
[diagram p7: symbols XCR3128XL-7VQ100I to XCR3128XL-10CS144I]

## XCR3128XL-7VQ100I
designator U?
CoolRunner XPLA3, 3.3V, 128 Macrocell CPLD, 100-Pin VQFP, Industrial Grade; PackageDocument: ver1.1, Oct-2002; Published: 17-Sep-2003; DatasheetDocument: ver2.2, Feb-2004; PackageReference: VQ100; Publisher: Altium Limited; Code_JEDEC: MS-026-AED; Code_IPC: SQFP14X14-100
footprint VQ100 (100-Pin Very Thin Quad Flat Pack (VQ100))
3D model XCR3128XL-VQ100 (100-Pin Very Thin Quad Flat Pack (VQ100))
signal-integrity model XCR3128XL_VQ100 (CoolRunner XPLA3)
pins: 1 I/O (io), 2 I/O (io), 3 VCC (power), 4 I/O, TDI (io), 5 I/O (io), 6 I/O (io), 7 I/O (io), 8 I/O (io), 9 I/O (io), 10 I/O (io), 11 PORT_EN (in), 12 I/O (io), 13 I/O (io), 14 I/O (io), 15 I/O, TMS (io), 16 I/O (io), 17 I/O (io), 18 VCC (power), 19 I/O (io), 20 I/O (io), 21 I/O (io), 22 I/O (io), 23 I/O (io), 24 I/O (io), 25 I/O (io), 26 GND (power), 27 I/O (io), 28 I/O (io), 29 I/O (io), 30 I/O (io), 31 I/O (io), 32 I/O (io), 33 I/O (io), 34 VCC (power), 35 I/O (io), 36 I/O (io), 37 I/O (io), 38 GND (power), 39 VCC (power), 40 I/O (io), 41 I/O (io), 42 I/O (io), 43 GND (power), 44 I/O (io), 45 I/O (io), 46 I/O (io), 47 I/O (io), 48 I/O (io), 49 I/O (io), 50 I/O (io), 51 VCC (power), 52 I/O (io), 53 I/O (io), 54 I/O (io), 55 I/O (io), 56 I/O (io), 57 I/O (io), 58 I/O (io), 59 GND (power), 60 I/O (io), 61 I/O (io), 62 I/O, TCK (io), 63 I/O (io), 64 I/O (io), 65 I/O (io), 66 VCC (power), 67 I/O (io), 68 I/O (io), 69 I/O (io), 70 I/O (io), 71 I/O (io), 72 I/O (io), 73 I/O, TDO (io), 74 GND (power), 75 I/O (io), 76 I/O (io), 77 I/O (io), 78 I/O (io), 79 I/O (io), 80 I/O (io), 81 I/O (io), 82 VCC (power), 83 I/O (io), 84 I/O (io), 85 I/O (io), 86 GND (power), 87 IN3 / CLK3 (in), 88 IN2 / CLK2 (in), 89 IN1 / CLK1 (in), 90 IN0 / CLK0 (in), 91 VCC (power), 92 I/O (io), 93 I/O (io), 94 I/O (io), 95 GND (power), 96 I/O (io), 97 I/O (io), 98 I/O (io), 99 I/O (io), 100 I/O (io)

## XCR3128XL-10CS144C
designator U?
CoolRunner XPLA3, 3.3V, 128 Macrocell CPLD, 144-Ball CSBGA, Commercial Grade; PackageDocument: ver1.0, Jun-2000; Published: 17-Jul-2002; LatestRevisionDate: 17-Sep-2003; LatestRevisionNote: PCB Footprint dimensions updated; DatasheetDocument: ver2.2, Feb-2004; PackageReference: CS144; Publisher: Altium Limited
footprint CS144 (144-Ball Chip Scale Ball Grid Array (CS144))
3D model XCR3128XL-CS144 (144-Ball Chip Scale Ball Grid Array (CS144))
signal-integrity model XCR3128XL_CS144 (CoolRunner XPLA3)
part A pins: A1 I/O (io), A2 I/O (io), A3 I/O (io), A4 I/O (io), A5 I/O (io), A9 I/O (io), A11 I/O (io), A12 I/O (io), A13 I/O (io), B1 I/O (io), B3 I/O (io), B4 I/O (io), B5 I/O (io), B9 I/O (io), B10 I/O (io), B11 I/O (io), B12 I/O (io), C3 I/O (io), C4 I/O (io), C6 I/O (io), C8 I/O (io), C9 I/O (io), C10 I/O (io), D1 I/O (io), D2 I/O, TDI (io), D5 I/O (io), D6 I/O (io), D8 I/O (io), D9 I/O (io), D10 I/O (io), D11 I/O, TDO (io), D12 I/O (io), D13 I/O (io), E1 I/O (io), E2 I/O (io), E3 I/O (io), E4 I/O (io), E10 I/O (io), E11 I/O (io), E12 I/O (io), E13 I/O (io), F2 I/O (io), F3 I/O (io), F4 I/O (io), F10 I/O (io), F12 I/O (io), F13 I/O (io), G1 I/O (io), G2 I/O (io), G3 I/O (io), G10 I/O (io), G11 I/O (io), G12 I/O, TCK (io), G13 I/O (io), H1 I/O (io), H2 I/O, TMS (io), H3 I/O (io), H4 I/O (io), H11 I/O (io), H12 I/O (io), H13 I/O (io), J1 I/O (io), J3 I/O (io), J4 I/O (io), J10 I/O (io), J11 I/O (io), J12 I/O (io), J13 I/O (io), K1 I/O (io), K2 I/O (io), K3 I/O (io), K4 I/O (io), K5 I/O (io), K8 I/O (io), K9 I/O (io), K10 I/O (io), K11 I/O (io), K12 I/O (io), K13 I/O (io), L1 I/O (io), L4 I/O (io), L5 I/O (io), L8 I/O (io), L9 I/O (io), L10 I/O (io), L11 I/O (io), M2 I/O (io), M3 I/O (io), M4 I/O (io), M5 I/O (io), M6 I/O (io), M7 I/O (io), M8 I/O (io), M10 I/O (io), M11 I/O (io), M12 I/O (io), N1 I/O (io), N3 I/O (io), N4 I/O (io), N6 I/O (io), N7 I/O (io), N9 I/O (io), N10 I/O (io), N11 I/O (io)
part B pins: A6 GND (power), A7 IN2 / CLK2 (in), A8 GND (power), A10 VCC (power), B2 VCC (power), B6 VCC (power), B7 IN3 / CLK3 (in), B8 VCC (power), B13 NC, C1 NC, C2 NC, C5 GND (power), C7 IN1 / CLK1 (in), C11 NC, C12 NC, C13 GND (power), D3 GND (power), D4 VCC (power), D7 IN0 / CLK0 (in), F1 PORT_EN (in), F11 VCC (power), G4 GND (power), H10 GND (power), J2 VCC (power), K6 VCC (power), K7 VCC (power), L2 NC, L3 NC, L6 GND (power), L7 GND (power), L12 NC, L13 VCC (power), M1 NC, M9 GND (power), M13 NC, N2 GND (power), N5 VCC (power), N8 GND (power), N12 VCC (power), N13 NC

## XCR3128XL-10CS144I
designator U?
CoolRunner XPLA3, 3.3V, 128 Macrocell CPLD, 144-Ball CSBGA, Industrial Grade; PackageDocument: ver1.0, Jun-2000; Published: 17-Jul-2002; LatestRevisionDate: 17-Sep-2003; LatestRevisionNote: PCB Footprint dimensions updated; DatasheetDocument: ver2.2, Feb-2004; PackageReference: CS144; Publisher: Altium Limited
footprint CS144 (144-Ball Chip Scale Ball Grid Array (CS144))
3D model XCR3128XL-CS144 (144-Ball Chip Scale Ball Grid Array (CS144))
signal-integrity model XCR3128XL_CS144 (CoolRunner XPLA3)
part A pins: A1 I/O (io), A2 I/O (io), A3 I/O (io), A4 I/O (io), A5 I/O (io), A9 I/O (io), A11 I/O (io), A12 I/O (io), A13 I/O (io), B1 I/O (io), B3 I/O (io), B4 I/O (io), B5 I/O (io), B9 I/O (io), B10 I/O (io), B11 I/O (io), B12 I/O (io), C3 I/O (io), C4 I/O (io), C6 I/O (io), C8 I/O (io), C9 I/O (io), C10 I/O (io), D1 I/O (io), D2 I/O, TDI (io), D5 I/O (io), D6 I/O (io), D8 I/O (io), D9 I/O (io), D10 I/O (io), D11 I/O, TDO (io), D12 I/O (io), D13 I/O (io), E1 I/O (io), E2 I/O (io), E3 I/O (io), E4 I/O (io), E10 I/O (io), E11 I/O (io), E12 I/O (io), E13 I/O (io), F2 I/O (io), F3 I/O (io), F4 I/O (io), F10 I/O (io), F12 I/O (io), F13 I/O (io), G1 I/O (io), G2 I/O (io), G3 I/O (io), G10 I/O (io), G11 I/O (io), G12 I/O, TCK (io), G13 I/O (io), H1 I/O (io), H2 I/O, TMS (io), H3 I/O (io), H4 I/O (io), H11 I/O (io), H12 I/O (io), H13 I/O (io), J1 I/O (io), J3 I/O (io), J4 I/O (io), J10 I/O (io), J11 I/O (io), J12 I/O (io), J13 I/O (io), K1 I/O (io), K2 I/O (io), K3 I/O (io), K4 I/O (io), K5 I/O (io), K8 I/O (io), K9 I/O (io), K10 I/O (io), K11 I/O (io), K12 I/O (io), K13 I/O (io), L1 I/O (io), L4 I/O (io), L5 I/O (io), L8 I/O (io), L9 I/O (io), L10 I/O (io), L11 I/O (io), M2 I/O (io), M3 I/O (io), M4 I/O (io), M5 I/O (io), M6 I/O (io), M7 I/O (io), M8 I/O (io), M10 I/O (io), M11 I/O (io), M12 I/O (io), N1 I/O (io), N3 I/O (io), N4 I/O (io), N6 I/O (io), N7 I/O (io), N9 I/O (io), N10 I/O (io), N11 I/O (io)
part B pins: A6 GND (power), A7 IN2 / CLK2 (in), A8 GND (power), A10 VCC (power), B2 VCC (power), B6 VCC (power), B7 IN3 / CLK3 (in), B8 VCC (power), B13 NC, C1 NC, C2 NC, C5 GND (power), C7 IN1 / CLK1 (in), C11 NC, C12 NC, C13 GND (power), D3 GND (power), D4 VCC (power), D7 IN0 / CLK0 (in), F1 PORT_EN (in), F11 VCC (power), G4 GND (power), H10 GND (power), J2 VCC (power), K6 VCC (power), K7 VCC (power), L2 NC, L3 NC, L6 GND (power), L7 GND (power), L12 NC, L13 VCC (power), M1 NC, M9 GND (power), M13 NC, N2 GND (power), N5 VCC (power), N8 GND (power), N12 VCC (power), N13 NC

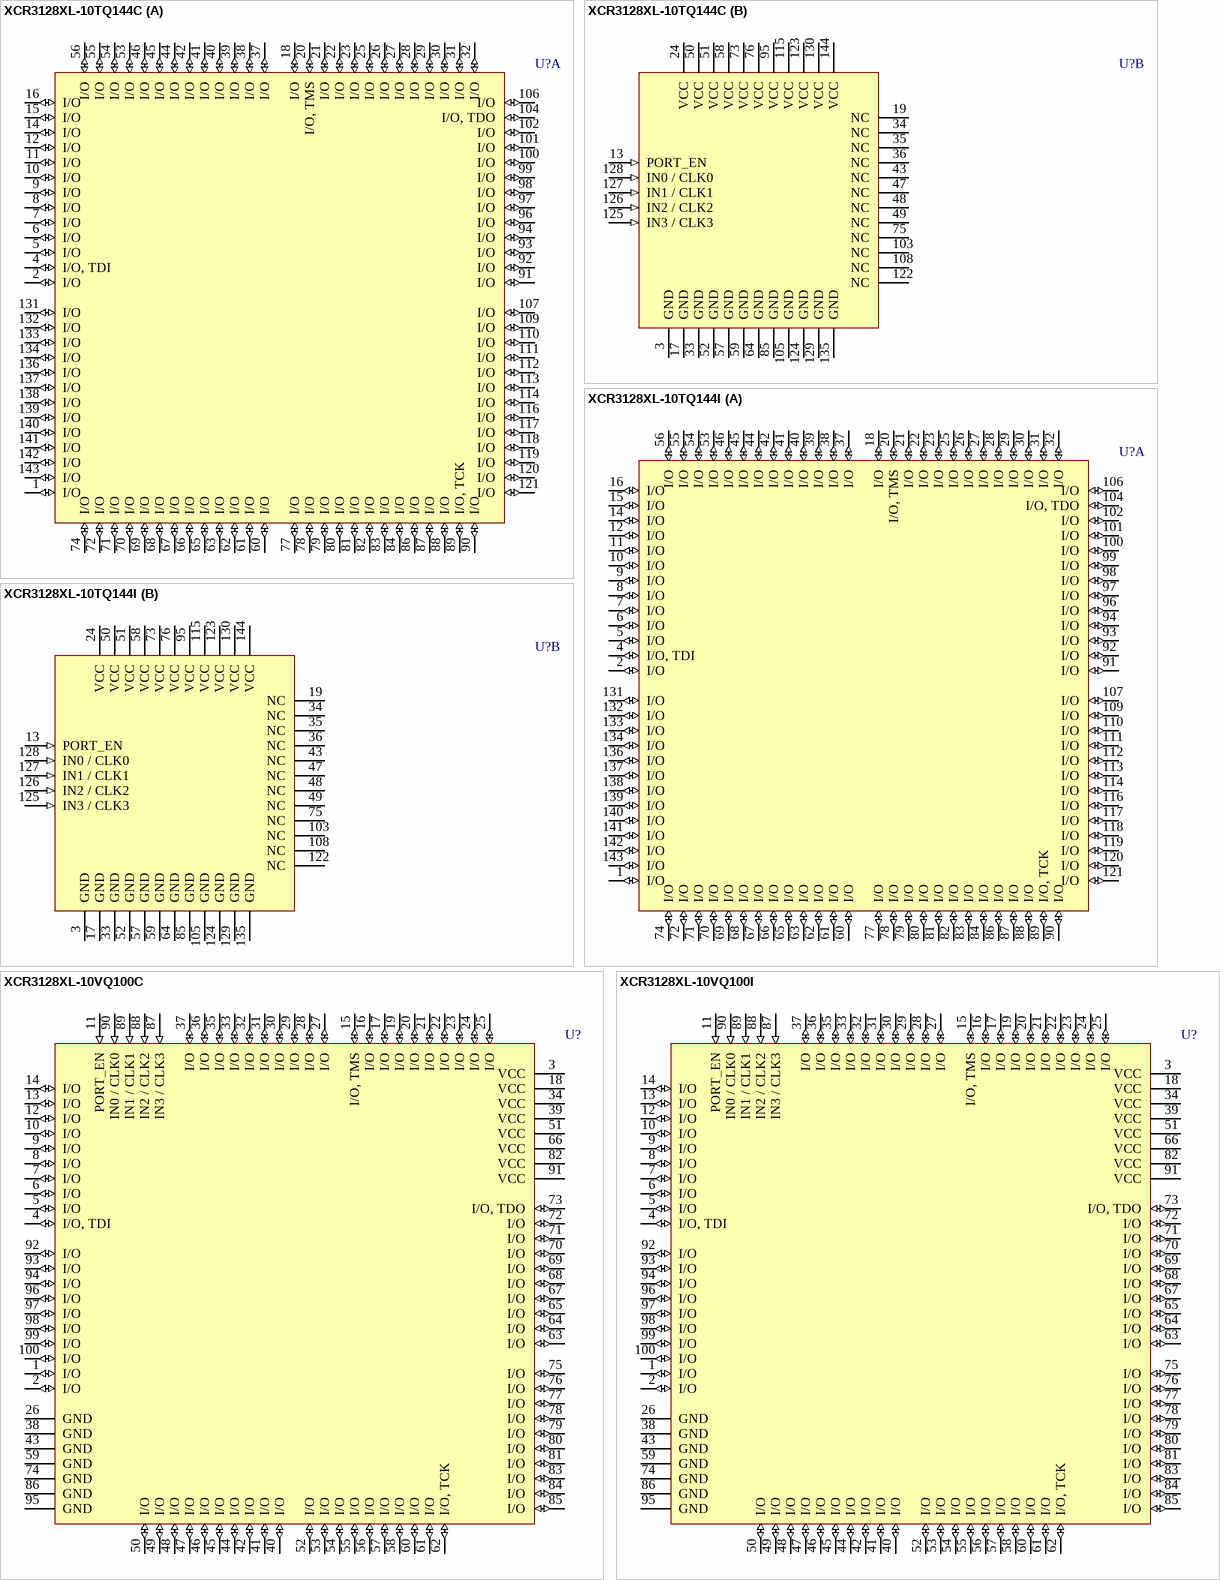
[diagram p8: symbols XCR3128XL-10TQ144C to XCR3128XL-10VQ100I]

## XCR3128XL-10TQ144C
designator U?
CoolRunner XPLA3, 3.3V, 128 Macrocell CPLD, 144-Pin TQFP, Commercial Grade; PackageDocument: ver1.1, Oct-2002; Published: 17-Jul-2002; DatasheetDocument: ver2.2, Feb-2004; PackageReference: TQ144; Publisher: Altium Limited; Code_JEDEC: MS-026-BFB; Code_IPC: SQFP20X20-144
footprint TQ144 (144-Pin Thin Quad Flat Pack (TQ144))
3D model XCR3128XL-TQ144 (144-Pin Thin Quad Flat Pack (TQ144))
signal-integrity model XCR3128XL_TQ144 (CoolRunner XPLA3)
part A pins: 1 I/O (io), 2 I/O (io), 4 I/O, TDI (io), 5 I/O (io), 6 I/O (io), 7 I/O (io), 8 I/O (io), 9 I/O (io), 10 I/O (io), 11 I/O (io), 12 I/O (io), 14 I/O (io), 15 I/O (io), 16 I/O (io), 18 I/O (io), 20 I/O, TMS (io), 21 I/O (io), 22 I/O (io), 23 I/O (io), 25 I/O (io), 26 I/O (io), 27 I/O (io), 28 I/O (io), 29 I/O (io), 30 I/O (io), 31 I/O (io), 32 I/O (io), 37 I/O (io), 38 I/O (io), 39 I/O (io), 40 I/O (io), 41 I/O (io), 42 I/O (io), 44 I/O (io), 45 I/O (io), 46 I/O (io), 53 I/O (io), 54 I/O (io), 55 I/O (io), 56 I/O (io), 60 I/O (io), 61 I/O (io), 62 I/O (io), 63 I/O (io), 65 I/O (io), 66 I/O (io), 67 I/O (io), 68 I/O (io), 69 I/O (io), 70 I/O (io), 71 I/O (io), 72 I/O (io), 74 I/O (io), 77 I/O (io), 78 I/O (io), 79 I/O (io), 80 I/O (io), 81 I/O (io), 82 I/O (io), 83 I/O (io), 84 I/O (io), 86 I/O (io), 87 I/O (io), 88 I/O (io), 89 I/O, TCK (io), 90 I/O (io), 91 I/O (io), 92 I/O (io), 93 I/O (io), 94 I/O (io), 96 I/O (io), 97 I/O (io), 98 I/O (io), 99 I/O (io), 100 I/O (io), 101 I/O (io), 102 I/O (io), 104 I/O, TDO (io), 106 I/O (io), 107 I/O (io), 109 I/O (io), 110 I/O (io), 111 I/O (io), 112 I/O (io), 113 I/O (io), 114 I/O (io), 116 I/O (io), 117 I/O (io), 118 I/O (io), 119 I/O (io), 120 I/O (io), 121 I/O (io), 131 I/O (io), 132 I/O (io), 133 I/O (io), 134 I/O (io), 136 I/O (io), 137 I/O (io), 138 I/O (io), 139 I/O (io), 140 I/O (io), 141 I/O (io), 142 I/O (io), 143 I/O (io)
part B pins: 3 GND (power), 13 PORT_EN (in), 17 GND (power), 19 NC, 24 VCC (power), 33 GND (power), 34 NC, 35 NC, 36 NC, 43 NC, 47 NC, 48 NC, 49 NC, 50 VCC (power), 51 VCC (power), 52 GND (power), 57 GND (power), 58 VCC (power), 59 GND (power), 64 GND (power), 73 VCC (power), 75 NC, 76 VCC (power), 85 GND (power), 95 VCC (power), 103 NC, 105 GND (power), 108 NC, 115 VCC (power), 122 NC, 123 VCC (power), 124 GND (power), 125 IN3 / CLK3 (in), 126 IN2 / CLK2 (in), 127 IN1 / CLK1 (in), 128 IN0 / CLK0 (in), 129 GND (power), 130 VCC (power), 135 GND (power), 144 VCC (power)

## XCR3128XL-10TQ144I
designator U?
CoolRunner XPLA3, 3.3V, 128 Macrocell CPLD, 144-Pin TQFP, Industrial Grade; PackageDocument: ver1.1, Oct-2002; Published: 17-Jul-2002; DatasheetDocument: ver2.2, Feb-2004; PackageReference: TQ144; Publisher: Altium Limited; Code_JEDEC: MS-026-BFB; Code_IPC: SQFP20X20-144
footprint TQ144 (144-Pin Thin Quad Flat Pack (TQ144))
3D model XCR3128XL-TQ144 (144-Pin Thin Quad Flat Pack (TQ144))
signal-integrity model XCR3128XL_TQ144 (CoolRunner XPLA3)
part A pins: 1 I/O (io), 2 I/O (io), 4 I/O, TDI (io), 5 I/O (io), 6 I/O (io), 7 I/O (io), 8 I/O (io), 9 I/O (io), 10 I/O (io), 11 I/O (io), 12 I/O (io), 14 I/O (io), 15 I/O (io), 16 I/O (io), 18 I/O (io), 20 I/O, TMS (io), 21 I/O (io), 22 I/O (io), 23 I/O (io), 25 I/O (io), 26 I/O (io), 27 I/O (io), 28 I/O (io), 29 I/O (io), 30 I/O (io), 31 I/O (io), 32 I/O (io), 37 I/O (io), 38 I/O (io), 39 I/O (io), 40 I/O (io), 41 I/O (io), 42 I/O (io), 44 I/O (io), 45 I/O (io), 46 I/O (io), 53 I/O (io), 54 I/O (io), 55 I/O (io), 56 I/O (io), 60 I/O (io), 61 I/O (io), 62 I/O (io), 63 I/O (io), 65 I/O (io), 66 I/O (io), 67 I/O (io), 68 I/O (io), 69 I/O (io), 70 I/O (io), 71 I/O (io), 72 I/O (io), 74 I/O (io), 77 I/O (io), 78 I/O (io), 79 I/O (io), 80 I/O (io), 81 I/O (io), 82 I/O (io), 83 I/O (io), 84 I/O (io), 86 I/O (io), 87 I/O (io), 88 I/O (io), 89 I/O, TCK (io), 90 I/O (io), 91 I/O (io), 92 I/O (io), 93 I/O (io), 94 I/O (io), 96 I/O (io), 97 I/O (io), 98 I/O (io), 99 I/O (io), 100 I/O (io), 101 I/O (io), 102 I/O (io), 104 I/O, TDO (io), 106 I/O (io), 107 I/O (io), 109 I/O (io), 110 I/O (io), 111 I/O (io), 112 I/O (io), 113 I/O (io), 114 I/O (io), 116 I/O (io), 117 I/O (io), 118 I/O (io), 119 I/O (io), 120 I/O (io), 121 I/O (io), 131 I/O (io), 132 I/O (io), 133 I/O (io), 134 I/O (io), 136 I/O (io), 137 I/O (io), 138 I/O (io), 139 I/O (io), 140 I/O (io), 141 I/O (io), 142 I/O (io), 143 I/O (io)
part B pins: 3 GND (power), 13 PORT_EN (in), 17 GND (power), 19 NC, 24 VCC (power), 33 GND (power), 34 NC, 35 NC, 36 NC, 43 NC, 47 NC, 48 NC, 49 NC, 50 VCC (power), 51 VCC (power), 52 GND (power), 57 GND (power), 58 VCC (power), 59 GND (power), 64 GND (power), 73 VCC (power), 75 NC, 76 VCC (power), 85 GND (power), 95 VCC (power), 103 NC, 105 GND (power), 108 NC, 115 VCC (power), 122 NC, 123 VCC (power), 124 GND (power), 125 IN3 / CLK3 (in), 126 IN2 / CLK2 (in), 127 IN1 / CLK1 (in), 128 IN0 / CLK0 (in), 129 GND (power), 130 VCC (power), 135 GND (power), 144 VCC (power)

## XCR3128XL-10VQ100C
designator U?
CoolRunner XPLA3, 3.3V, 128 Macrocell CPLD, 100-Pin VQFP, Commercial Grade; PackageDocument: ver1.1, Oct-2002; Published: 17-Jul-2002; DatasheetDocument: ver2.2, Feb-2004; PackageReference: VQ100; Publisher: Altium Limited; Code_JEDEC: MS-026-AED; Code_IPC: SQFP14X14-100
footprint VQ100 (100-Pin Very Thin Quad Flat Pack (VQ100))
3D model XCR3128XL-VQ100 (100-Pin Very Thin Quad Flat Pack (VQ100))
signal-integrity model XCR3128XL_VQ100 (CoolRunner XPLA3)
pins: 1 I/O (io), 2 I/O (io), 3 VCC (power), 4 I/O, TDI (io), 5 I/O (io), 6 I/O (io), 7 I/O (io), 8 I/O (io), 9 I/O (io), 10 I/O (io), 11 PORT_EN (in), 12 I/O (io), 13 I/O (io), 14 I/O (io), 15 I/O, TMS (io), 16 I/O (io), 17 I/O (io), 18 VCC (power), 19 I/O (io), 20 I/O (io), 21 I/O (io), 22 I/O (io), 23 I/O (io), 24 I/O (io), 25 I/O (io), 26 GND (power), 27 I/O (io), 28 I/O (io), 29 I/O (io), 30 I/O (io), 31 I/O (io), 32 I/O (io), 33 I/O (io), 34 VCC (power), 35 I/O (io), 36 I/O (io), 37 I/O (io), 38 GND (power), 39 VCC (power), 40 I/O (io), 41 I/O (io), 42 I/O (io), 43 GND (power), 44 I/O (io), 45 I/O (io), 46 I/O (io), 47 I/O (io), 48 I/O (io), 49 I/O (io), 50 I/O (io), 51 VCC (power), 52 I/O (io), 53 I/O (io), 54 I/O (io), 55 I/O (io), 56 I/O (io), 57 I/O (io), 58 I/O (io), 59 GND (power), 60 I/O (io), 61 I/O (io), 62 I/O, TCK (io), 63 I/O (io), 64 I/O (io), 65 I/O (io), 66 VCC (power), 67 I/O (io), 68 I/O (io), 69 I/O (io), 70 I/O (io), 71 I/O (io), 72 I/O (io), 73 I/O, TDO (io), 74 GND (power), 75 I/O (io), 76 I/O (io), 77 I/O (io), 78 I/O (io), 79 I/O (io), 80 I/O (io), 81 I/O (io), 82 VCC (power), 83 I/O (io), 84 I/O (io), 85 I/O (io), 86 GND (power), 87 IN3 / CLK3 (in), 88 IN2 / CLK2 (in), 89 IN1 / CLK1 (in), 90 IN0 / CLK0 (in), 91 VCC (power), 92 I/O (io), 93 I/O (io), 94 I/O (io), 95 GND (power), 96 I/O (io), 97 I/O (io), 98 I/O (io), 99 I/O (io), 100 I/O (io)

## XCR3128XL-10VQ100I
designator U?
CoolRunner XPLA3, 3.3V, 128 Macrocell CPLD, 100-Pin VQFP, Industrial Grade; PackageDocument: ver1.1, Oct-2002; Published: 17-Jul-2002; DatasheetDocument: ver2.2, Feb-2004; PackageReference: VQ100; Publisher: Altium Limited; Code_JEDEC: MS-026-AED; Code_IPC: SQFP14X14-100
footprint VQ100 (100-Pin Very Thin Quad Flat Pack (VQ100))
3D model XCR3128XL-VQ100 (100-Pin Very Thin Quad Flat Pack (VQ100))
signal-integrity model XCR3128XL_VQ100 (CoolRunner XPLA3)
pins: 1 I/O (io), 2 I/O (io), 3 VCC (power), 4 I/O, TDI (io), 5 I/O (io), 6 I/O (io), 7 I/O (io), 8 I/O (io), 9 I/O (io), 10 I/O (io), 11 PORT_EN (in), 12 I/O (io), 13 I/O (io), 14 I/O (io), 15 I/O, TMS (io), 16 I/O (io), 17 I/O (io), 18 VCC (power), 19 I/O (io), 20 I/O (io), 21 I/O (io), 22 I/O (io), 23 I/O (io), 24 I/O (io), 25 I/O (io), 26 GND (power), 27 I/O (io), 28 I/O (io), 29 I/O (io), 30 I/O (io), 31 I/O (io), 32 I/O (io), 33 I/O (io), 34 VCC (power), 35 I/O (io), 36 I/O (io), 37 I/O (io), 38 GND (power), 39 VCC (power), 40 I/O (io), 41 I/O (io), 42 I/O (io), 43 GND (power), 44 I/O (io), 45 I/O (io), 46 I/O (io), 47 I/O (io), 48 I/O (io), 49 I/O (io), 50 I/O (io), 51 VCC (power), 52 I/O (io), 53 I/O (io), 54 I/O (io), 55 I/O (io), 56 I/O (io), 57 I/O (io), 58 I/O (io), 59 GND (power), 60 I/O (io), 61 I/O (io), 62 I/O, TCK (io), 63 I/O (io), 64 I/O (io), 65 I/O (io), 66 VCC (power), 67 I/O (io), 68 I/O (io), 69 I/O (io), 70 I/O (io), 71 I/O (io), 72 I/O (io), 73 I/O, TDO (io), 74 GND (power), 75 I/O (io), 76 I/O (io), 77 I/O (io), 78 I/O (io), 79 I/O (io), 80 I/O (io), 81 I/O (io), 82 VCC (power), 83 I/O (io), 84 I/O (io), 85 I/O (io), 86 GND (power), 87 IN3 / CLK3 (in), 88 IN2 / CLK2 (in), 89 IN1 / CLK1 (in), 90 IN0 / CLK0 (in), 91 VCC (power), 92 I/O (io), 93 I/O (io), 94 I/O (io), 95 GND (power), 96 I/O (io), 97 I/O (io), 98 I/O (io), 99 I/O (io), 100 I/O (io)

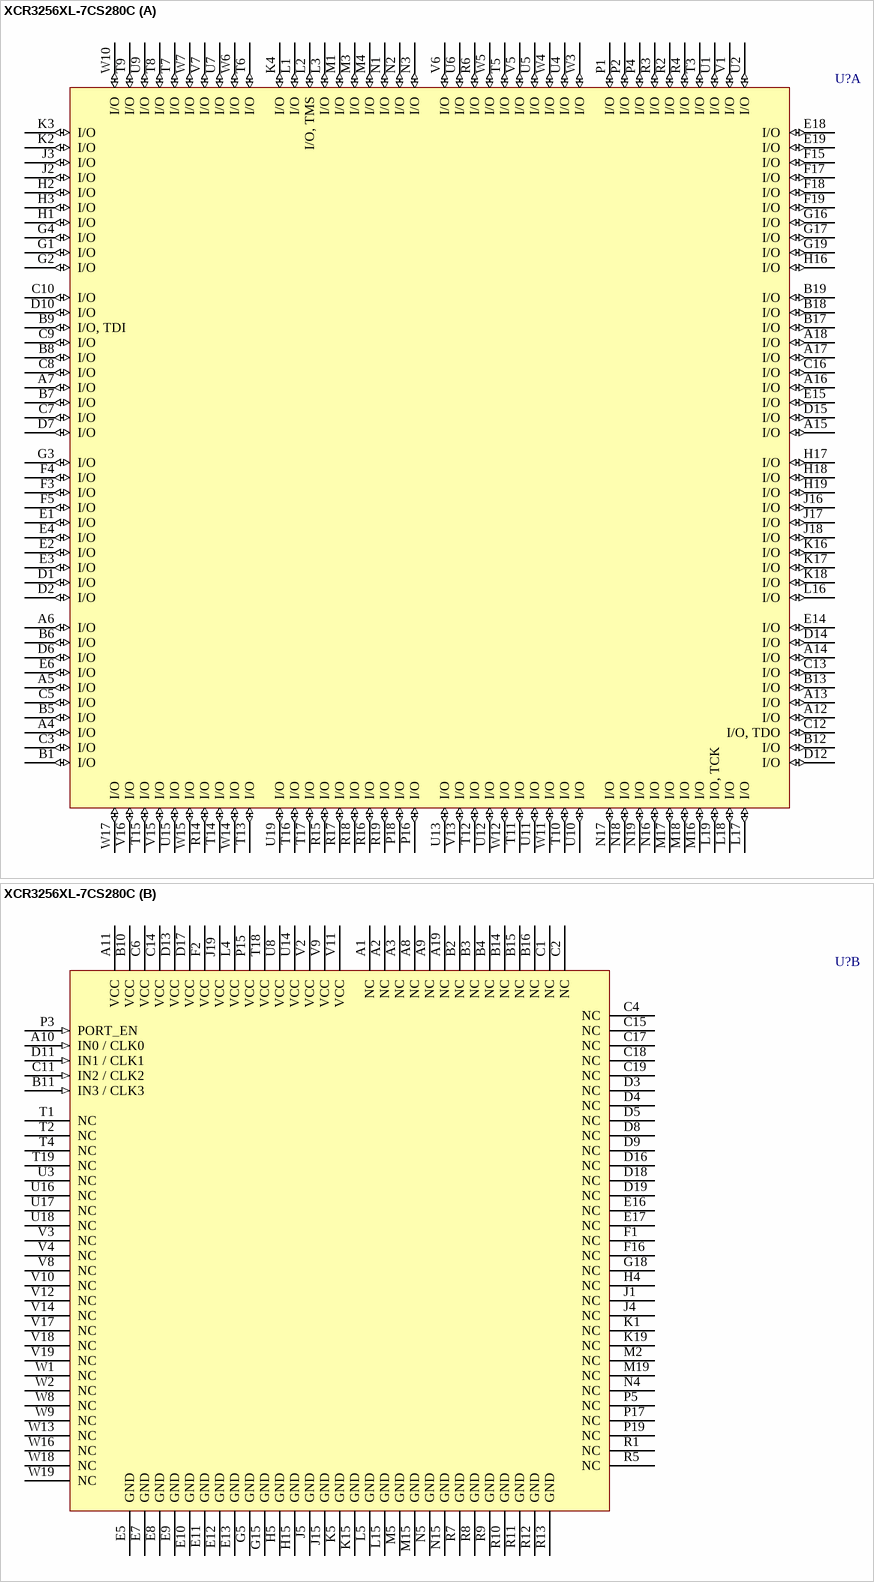
[diagram p9: symbol XCR3256XL-7CS280C]

## XCR3256XL-7CS280C
designator U?
CoolRunner XPLA3, 3.3V, 256 Macrocell CPLD, 280-Ball CSBGA, Commercial Grade; PackageDocument: ver1.0, Jun-2000; Published: 17-Jul-2002; LatestRevisionDate: 17-Sep-2003; LatestRevisionNote: PCB Footprint pad diameter reduced to 0.4mm; DatasheetDocument: ver2.5, Feb-2004; PackageReference: CS280; Publisher: Altium Limited; Code_JEDEC: MO-216-BAL-1 (Depopulated)
footprint CS280 (280-Ball Chip Scale Ball Grid Array (CS280))
3D model XCR3256XL-CS280 (280-Ball Chip Scale Ball Grid Array (CS280))
signal-integrity model XCR3256XL_CS280 (CoolRunner XPLA3)
part A pins: A4 I/O (io), A5 I/O (io), A6 I/O (io), A7 I/O (io), A12 I/O (io), A13 I/O (io), A14 I/O (io), A15 I/O (io), A16 I/O (io), A17 I/O (io), A18 I/O (io), B1 I/O (io), B5 I/O (io), B6 I/O (io), B7 I/O (io), B8 I/O (io), B9 I/O, TDI (io), B12 I/O (io), B13 I/O (io), B17 I/O (io), B18 I/O (io), B19 I/O (io), C3 I/O (io), C5 I/O (io), C7 I/O (io), C8 I/O (io), C9 I/O (io), C10 I/O (io), C12 I/O, TDO (io), C13 I/O (io), C16 I/O (io), D1 I/O (io), D2 I/O (io), D6 I/O (io), D7 I/O (io), D10 I/O (io), D12 I/O (io), D14 I/O (io), D15 I/O (io), E1 I/O (io), E2 I/O (io), E3 I/O (io), E4 I/O (io), E6 I/O (io), E14 I/O (io), E15 I/O (io), E18 I/O (io), E19 I/O (io), F3 I/O (io), F4 I/O (io), F5 I/O (io), F15 I/O (io), F17 I/O (io), F18 I/O (io), F19 I/O (io), G1 I/O (io), G2 I/O (io), G3 I/O (io), G4 I/O (io), G16 I/O (io), G17 I/O (io), G19 I/O (io), H1 I/O (io), H2 I/O (io), H3 I/O (io), H16 I/O (io), H17 I/O (io), H18 I/O (io), H19 I/O (io), J2 I/O (io), J3 I/O (io), J16 I/O (io), J17 I/O (io), J18 I/O (io), K2 I/O (io), K3 I/O (io), K4 I/O (io), K16 I/O (io), K17 I/O (io), K18 I/O (io), L1 I/O (io), L2 I/O, TMS (io), L3 I/O (io), L16 I/O (io), L17 I/O (io), L18 I/O (io), L19 I/O, TCK (io), M1 I/O (io), M3 I/O (io), M4 I/O (io), M16 I/O (io), M17 I/O (io), M18 I/O (io), N1 I/O (io), N2 I/O (io), N3 I/O (io), N16 I/O (io), N17 I/O (io), N18 I/O (io), N19 I/O (io), P1 I/O (io), P2 I/O (io), P4 I/O (io), P16 I/O (io), P18 I/O (io), R2 I/O (io), R3 I/O (io), R4 I/O (io), R6 I/O (io), R14 I/O (io), R15 I/O (io), R16 I/O (io), R17 I/O (io), R18 I/O (io), R19 I/O (io), T3 I/O (io), T5 I/O (io), T6 I/O (io), T7 I/O (io), T8 I/O (io), T9 I/O (io), T10 I/O (io), T11 I/O (io), T12 I/O (io), T13 I/O (io), T14 I/O (io), T15 I/O (io), T16 I/O (io), T17 I/O (io), U1 I/O (io), U2 I/O (io), U4 I/O (io), U5 I/O (io), U6 I/O (io), U7 I/O (io), U9 I/O (io), U10 I/O (io), U11 I/O (io), U12 I/O (io), U13 I/O (io), U15 I/O (io), U19 I/O (io), V1 I/O (io), V5 I/O (io), V6 I/O (io), V7 I/O (io), V13 I/O (io), V15 I/O (io), V16 I/O (io), W3 I/O (io), W4 I/O (io), W5 I/O (io), W6 I/O (io), W7 I/O (io), W10 I/O (io), W11 I/O (io), W12 I/O (io), W14 I/O (io), W15 I/O (io), W17 I/O (io)
part B pins: A1 NC, A2 NC, A3 NC, A8 NC, A9 NC, A10 IN0 / CLK0 (in), A11 VCC (power), A19 NC, B2 NC, B3 NC, B4 NC, B10 VCC (power), B11 IN3 / CLK3 (in), B14 NC, B15 NC, B16 NC, C1 NC, C2 NC, C4 NC, C6 VCC (power), C11 IN2 / CLK2 (in), C14 VCC (power), C15 NC, C17 NC, C18 NC, C19 NC, D3 NC, D4 NC, D5 NC, D8 NC, D9 NC, D11 IN1 / CLK1 (in), D13 VCC (power), D16 NC, D17 VCC (power), D18 NC, D19 NC, E5 GND (power), E7 GND (power), E8 GND (power), E9 GND (power), E10 GND (power), E11 GND (power), E12 GND (power), E13 GND (power), E16 NC, E17 NC, F1 NC, F2 VCC (power), F16 NC, G5 GND (power), G15 GND (power), G18 NC, H4 NC, H5 GND (power), H15 GND (power), J1 NC, J4 NC, J5 GND (power), J15 GND (power), J19 VCC (power), K1 NC, K5 GND (power), K15 GND (power), K19 NC, L4 VCC (power), L5 GND (power), L15 GND (power), M2 NC, M5 GND (power), M15 GND (power), M19 NC, N4 NC, N5 GND (power), N15 GND (power), P3 PORT_EN (in), P5 NC, P15 VCC (power), P17 NC, P19 NC, R1 NC, R5 NC, R7 GND (power), R8 GND (power), R9 GND (power), R10 GND (power), R11 GND (power), R12 GND (power), R13 GND (power), T1 NC, T2 NC, T4 NC, T18 VCC (power), T19 NC, U3 NC, U8 VCC (power), U14 VCC (power), U16 NC, U17 NC, U18 NC, V2 VCC (power), V3 NC, V4 NC, V8 NC, V9 VCC (power), V10 NC, V11 VCC (power), V12 NC, V14 NC, V17 NC, V18 NC, V19 NC, W1 NC, W2 NC, W8 NC, W9 NC, W13 NC, W16 NC, W18 NC, W19 NC

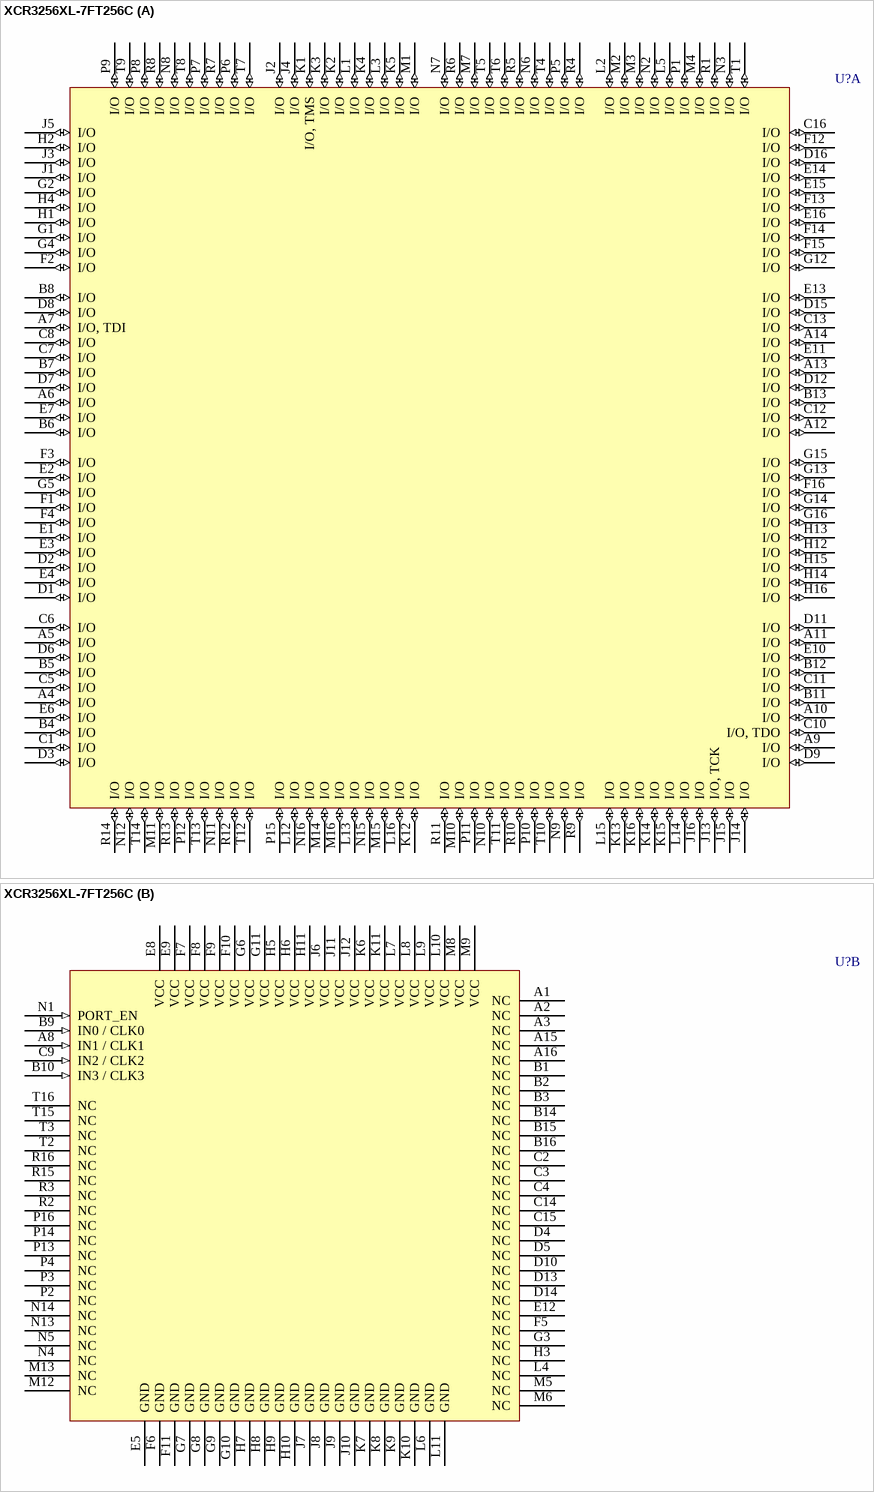
[diagram p10: symbol XCR3256XL-7FT256C]

## XCR3256XL-7FT256C
designator U?
CoolRunner XPLA3, 3.3V, 256 Macrocell CPLD, 256-Ball FTBGA, Commercial Grade; PackageDocument: ver1.0, Apr-2001; Published: 17-Jul-2002; DatasheetDocument: ver2.5, Feb-2004; PackageReference: FT256; Publisher: Altium Limited; Code_JEDEC: MS-034-AAF-1*
footprint FT256 (256-Ball Fine Pitch Thin Ball Grid Array (FT256))
3D model XCR3256XL-FT256 (256-Ball Fine Pitch Thin Ball Grid Array (FT256))
signal-integrity model XCR3256XL_FT256 (CoolRunner XPLA3)
part A pins: A4 I/O (io), A5 I/O (io), A6 I/O (io), A7 I/O, TDI (io), A9 I/O (io), A10 I/O (io), A11 I/O (io), A12 I/O (io), A13 I/O (io), A14 I/O (io), B4 I/O (io), B5 I/O (io), B6 I/O (io), B7 I/O (io), B8 I/O (io), B11 I/O (io), B12 I/O (io), B13 I/O (io), C1 I/O (io), C5 I/O (io), C6 I/O (io), C7 I/O (io), C8 I/O (io), C10 I/O, TDO (io), C11 I/O (io), C12 I/O (io), C13 I/O (io), C16 I/O (io), D1 I/O (io), D2 I/O (io), D3 I/O (io), D6 I/O (io), D7 I/O (io), D8 I/O (io), D9 I/O (io), D11 I/O (io), D12 I/O (io), D15 I/O (io), D16 I/O (io), E1 I/O (io), E2 I/O (io), E3 I/O (io), E4 I/O (io), E6 I/O (io), E7 I/O (io), E10 I/O (io), E11 I/O (io), E13 I/O (io), E14 I/O (io), E15 I/O (io), E16 I/O (io), F1 I/O (io), F2 I/O (io), F3 I/O (io), F4 I/O (io), F12 I/O (io), F13 I/O (io), F14 I/O (io), F15 I/O (io), F16 I/O (io), G1 I/O (io), G2 I/O (io), G4 I/O (io), G5 I/O (io), G12 I/O (io), G13 I/O (io), G14 I/O (io), G15 I/O (io), G16 I/O (io), H1 I/O (io), H2 I/O (io), H4 I/O (io), H12 I/O (io), H13 I/O (io), H14 I/O (io), H15 I/O (io), H16 I/O (io), J1 I/O (io), J2 I/O (io), J3 I/O (io), J4 I/O (io), J5 I/O (io), J13 I/O, TCK (io), J14 I/O (io), J15 I/O (io), J16 I/O (io), K1 I/O, TMS (io), K2 I/O (io), K3 I/O (io), K4 I/O (io), K5 I/O (io), K12 I/O (io), K13 I/O (io), K14 I/O (io), K15 I/O (io), K16 I/O (io), L1 I/O (io), L2 I/O (io), L3 I/O (io), L5 I/O (io), L12 I/O (io), L13 I/O (io), L14 I/O (io), L15 I/O (io), L16 I/O (io), M1 I/O (io), M2 I/O (io), M3 I/O (io), M4 I/O (io), M7 I/O (io), M10 I/O (io), M11 I/O (io), M14 I/O (io), M15 I/O (io), M16 I/O (io), N2 I/O (io), N3 I/O (io), N6 I/O (io), N7 I/O (io), N8 I/O (io), N9 I/O (io), N10 I/O (io), N11 I/O (io), N12 I/O (io), N15 I/O (io), N16 I/O (io), P1 I/O (io), P5 I/O (io), P6 I/O (io), P7 I/O (io), P8 I/O (io), P9 I/O (io), P10 I/O (io), P11 I/O (io), P12 I/O (io), P15 I/O (io), R1 I/O (io), R4 I/O (io), R5 I/O (io), R6 I/O (io), R7 I/O (io), R8 I/O (io), R9 I/O (io), R10 I/O (io), R11 I/O (io), R12 I/O (io), R13 I/O (io), R14 I/O (io), T1 I/O (io), T4 I/O (io), T5 I/O (io), T6 I/O (io), T7 I/O (io), T8 I/O (io), T9 I/O (io), T10 I/O (io), T11 I/O (io), T12 I/O (io), T13 I/O (io), T14 I/O (io)
part B pins: A1 NC, A2 NC, A3 NC, A8 IN1 / CLK1 (in), A15 NC, A16 NC, B1 NC, B2 NC, B3 NC, B9 IN0 / CLK0 (in), B10 IN3 / CLK3 (in), B14 NC, B15 NC, B16 NC, C2 NC, C3 NC, C4 NC, C9 IN2 / CLK2 (in), C14 NC, C15 NC, D4 NC, D5 NC, D10 NC, D13 NC, D14 NC, E5 GND (power), E8 VCC (power), E9 VCC (power), E12 NC, F5 NC, F6 GND (power), F7 VCC (power), F8 VCC (power), F9 VCC (power), F10 VCC (power), F11 GND (power), G3 NC, G6 VCC (power), G7 GND (power), G8 GND (power), G9 GND (power), G10 GND (power), G11 VCC (power), H3 NC, H5 VCC (power), H6 VCC (power), H7 GND (power), H8 GND (power), H9 GND (power), H10 GND (power), H11 VCC (power), J6 VCC (power), J7 GND (power), J8 GND (power), J9 GND (power), J10 GND (power), J11 VCC (power), J12 VCC (power), K6 VCC (power), K7 GND (power), K8 GND (power), K9 GND (power), K10 GND (power), K11 VCC (power), L4 NC, L6 GND (power), L7 VCC (power), L8 VCC (power), L9 VCC (power), L10 VCC (power), L11 GND (power), M5 NC, M6 NC, M8 VCC (power), M9 VCC (power), M12 NC, M13 NC, N1 PORT_EN (in), N4 NC, N5 NC, N13 NC, N14 NC, P2 NC, P3 NC, P4 NC, P13 NC, P14 NC, P16 NC, R2 NC, R3 NC, R15 NC, R16 NC, T2 NC, T3 NC, T15 NC, T16 NC

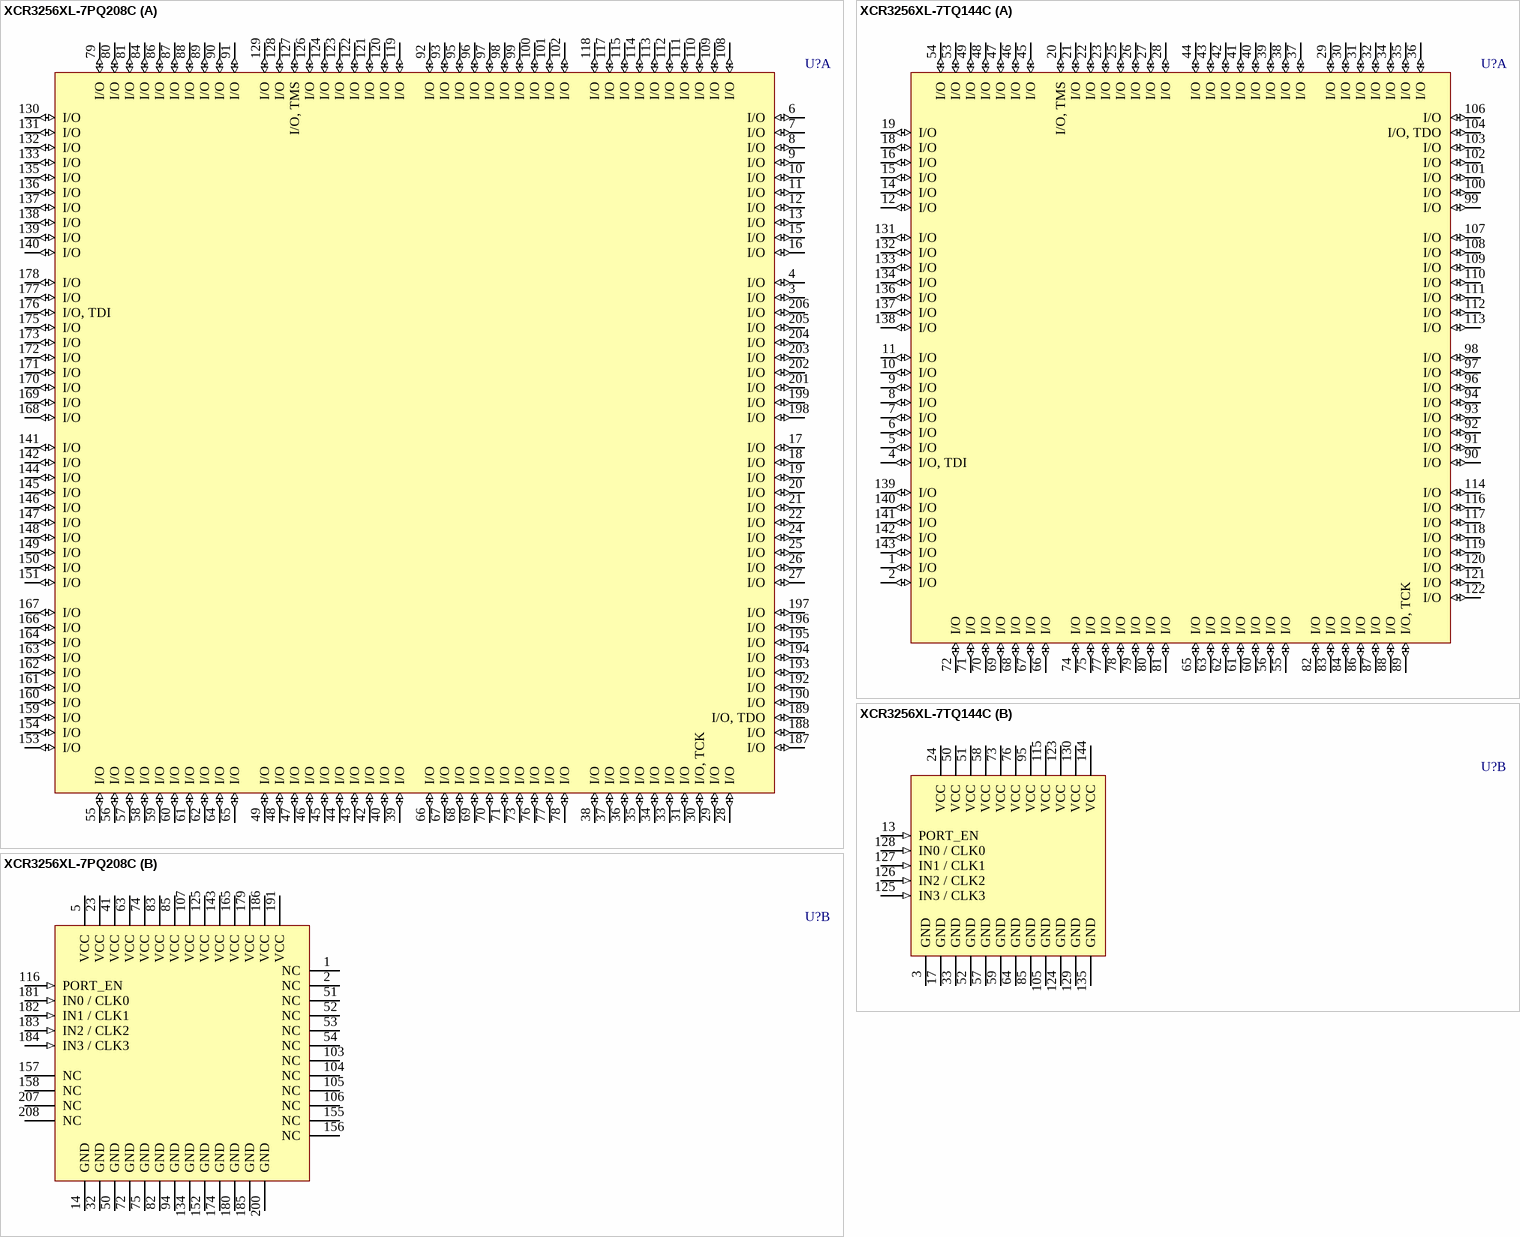
[diagram p11: symbols XCR3256XL-7PQ208C to XCR3256XL-7TQ144C]

## XCR3256XL-7PQ208C
designator U?
CoolRunner XPLA3, 3.3V, 256 Macrocell CPLD, 208-Pin PQFP, Commercial Grade; PackageDocument: ver1.1, Oct-2002; Published: 17-Jul-2002; DatasheetDocument: ver2.5, Feb-2004; PackageReference: PQ208; Publisher: Altium Limited; Code_JEDEC: MS-029-FA-1
footprint PQ208 (208-Pin Plastic Quad Flat Pack (PQ208))
3D model XCR3256XL-PQ208 (208-Pin Plastic Quad Flat Pack (PQ208))
signal-integrity model XCR3256XL_PQ208 (CoolRunner XPLA3)
part A pins: 3 I/O (io), 4 I/O (io), 6 I/O (io), 7 I/O (io), 8 I/O (io), 9 I/O (io), 10 I/O (io), 11 I/O (io), 12 I/O (io), 13 I/O (io), 15 I/O (io), 16 I/O (io), 17 I/O (io), 18 I/O (io), 19 I/O (io), 20 I/O (io), 21 I/O (io), 22 I/O (io), 24 I/O (io), 25 I/O (io), 26 I/O (io), 27 I/O (io), 28 I/O (io), 29 I/O (io), 30 I/O, TCK (io), 31 I/O (io), 33 I/O (io), 34 I/O (io), 35 I/O (io), 36 I/O (io), 37 I/O (io), 38 I/O (io), 39 I/O (io), 40 I/O (io), 42 I/O (io), 43 I/O (io), 44 I/O (io), 45 I/O (io), 46 I/O (io), 47 I/O (io), 48 I/O (io), 49 I/O (io), 55 I/O (io), 56 I/O (io), 57 I/O (io), 58 I/O (io), 59 I/O (io), 60 I/O (io), 61 I/O (io), 62 I/O (io), 64 I/O (io), 65 I/O (io), 66 I/O (io), 67 I/O (io), 68 I/O (io), 69 I/O (io), 70 I/O (io), 71 I/O (io), 73 I/O (io), 76 I/O (io), 77 I/O (io), 78 I/O (io), 79 I/O (io), 80 I/O (io), 81 I/O (io), 84 I/O (io), 86 I/O (io), 87 I/O (io), 88 I/O (io), 89 I/O (io), 90 I/O (io), 91 I/O (io), 92 I/O (io), 93 I/O (io), 95 I/O (io), 96 I/O (io), 97 I/O (io), 98 I/O (io), 99 I/O (io), 100 I/O (io), 101 I/O (io), 102 I/O (io), 108 I/O (io), 109 I/O (io), 110 I/O (io), 111 I/O (io), 112 I/O (io), 113 I/O (io), 114 I/O (io), 115 I/O (io), 117 I/O (io), 118 I/O (io), 119 I/O (io), 120 I/O (io), 121 I/O (io), 122 I/O (io), 123 I/O (io), 124 I/O (io), 126 I/O (io), 127 I/O, TMS (io), 128 I/O (io), 129 I/O (io), 130 I/O (io), 131 I/O (io), 132 I/O (io), 133 I/O (io), 135 I/O (io), 136 I/O (io), 137 I/O (io), 138 I/O (io), 139 I/O (io), 140 I/O (io), 141 I/O (io), 142 I/O (io), 144 I/O (io), 145 I/O (io), 146 I/O (io), 147 I/O (io), 148 I/O (io), 149 I/O (io), 150 I/O (io), 151 I/O (io), 153 I/O (io), 154 I/O (io), 159 I/O (io), 160 I/O (io), 161 I/O (io), 162 I/O (io), 163 I/O (io), 164 I/O (io), 166 I/O (io), 167 I/O (io), 168 I/O (io), 169 I/O (io), 170 I/O (io), 171 I/O (io), 172 I/O (io), 173 I/O (io), 175 I/O (io), 176 I/O, TDI (io), 177 I/O (io), 178 I/O (io), 187 I/O (io), 188 I/O (io), 189 I/O, TDO (io), 190 I/O (io), 192 I/O (io), 193 I/O (io), 194 I/O (io), 195 I/O (io), 196 I/O (io), 197 I/O (io), 198 I/O (io), 199 I/O (io), 201 I/O (io), 202 I/O (io), 203 I/O (io), 204 I/O (io), 205 I/O (io), 206 I/O (io)
part B pins: 1 NC, 2 NC, 5 VCC (power), 14 GND (power), 23 VCC (power), 32 GND (power), 41 VCC (power), 50 GND (power), 51 NC, 52 NC, 53 NC, 54 NC, 63 VCC (power), 72 GND (power), 74 VCC (power), 75 GND (power), 82 GND (power), 83 VCC (power), 85 VCC (power), 94 GND (power), 103 NC, 104 NC, 105 NC, 106 NC, 107 VCC (power), 116 PORT_EN (in), 125 VCC (power), 134 GND (power), 143 VCC (power), 152 GND (power), 155 NC, 156 NC, 157 NC, 158 NC, 165 VCC (power), 174 GND (power), 179 VCC (power), 180 GND (power), 181 IN0 / CLK0 (in), 182 IN1 / CLK1 (in), 183 IN2 / CLK2 (in), 184 IN3 / CLK3 (in), 185 GND (power), 186 VCC (power), 191 VCC (power), 200 GND (power), 207 NC, 208 NC

## XCR3256XL-7TQ144C
designator U?
CoolRunner XPLA3, 3.3V, 256 Macrocell CPLD, 144-Pin TQFP, Commercial Grade; PackageDocument: ver1.1, Oct-2002; Published: 17-Jul-2002; DatasheetDocument: ver2.5, Feb-2004; PackageReference: TQ144; Publisher: Altium Limited; Code_JEDEC: MS-026-BFB; Code_IPC: SQFP20X20-144
footprint TQ144 (144-Pin Thin Quad Flat Pack (TQ144))
3D model XCR3256XL-TQ144 (144-Pin Thin Quad Flat Pack (TQ144))
signal-integrity model XCR3256XL_TQ144 (CoolRunner XPLA3)
part A pins: 1 I/O (io), 2 I/O (io), 4 I/O, TDI (io), 5 I/O (io), 6 I/O (io), 7 I/O (io), 8 I/O (io), 9 I/O (io), 10 I/O (io), 11 I/O (io), 12 I/O (io), 14 I/O (io), 15 I/O (io), 16 I/O (io), 18 I/O (io), 19 I/O (io), 20 I/O, TMS (io), 21 I/O (io), 22 I/O (io), 23 I/O (io), 25 I/O (io), 26 I/O (io), 27 I/O (io), 28 I/O (io), 29 I/O (io), 30 I/O (io), 31 I/O (io), 32 I/O (io), 34 I/O (io), 35 I/O (io), 36 I/O (io), 37 I/O (io), 38 I/O (io), 39 I/O (io), 40 I/O (io), 41 I/O (io), 42 I/O (io), 43 I/O (io), 44 I/O (io), 45 I/O (io), 46 I/O (io), 47 I/O (io), 48 I/O (io), 49 I/O (io), 53 I/O (io), 54 I/O (io), 55 I/O (io), 56 I/O (io), 60 I/O (io), 61 I/O (io), 62 I/O (io), 63 I/O (io), 65 I/O (io), 66 I/O (io), 67 I/O (io), 68 I/O (io), 69 I/O (io), 70 I/O (io), 71 I/O (io), 72 I/O (io), 74 I/O (io), 75 I/O (io), 77 I/O (io), 78 I/O (io), 79 I/O (io), 80 I/O (io), 81 I/O (io), 82 I/O (io), 83 I/O (io), 84 I/O (io), 86 I/O (io), 87 I/O (io), 88 I/O (io), 89 I/O, TCK (io), 90 I/O (io), 91 I/O (io), 92 I/O (io), 93 I/O (io), 94 I/O (io), 96 I/O (io), 97 I/O (io), 98 I/O (io), 99 I/O (io), 100 I/O (io), 101 I/O (io), 102 I/O (io), 103 I/O (io), 104 I/O, TDO (io), 106 I/O (io), 107 I/O (io), 108 I/O (io), 109 I/O (io), 110 I/O (io), 111 I/O (io), 112 I/O (io), 113 I/O (io), 114 I/O (io), 116 I/O (io), 117 I/O (io), 118 I/O (io), 119 I/O (io), 120 I/O (io), 121 I/O (io), 122 I/O (io), 131 I/O (io), 132 I/O (io), 133 I/O (io), 134 I/O (io), 136 I/O (io), 137 I/O (io), 138 I/O (io), 139 I/O (io), 140 I/O (io), 141 I/O (io), 142 I/O (io), 143 I/O (io)
part B pins: 3 GND (power), 13 PORT_EN (in), 17 GND (power), 24 VCC (power), 33 GND (power), 50 VCC (power), 51 VCC (power), 52 GND (power), 57 GND (power), 58 VCC (power), 59 GND (power), 64 GND (power), 73 VCC (power), 76 VCC (power), 85 GND (power), 95 VCC (power), 105 GND (power), 115 VCC (power), 123 VCC (power), 124 GND (power), 125 IN3 / CLK3 (in), 126 IN2 / CLK2 (in), 127 IN1 / CLK1 (in), 128 IN0 / CLK0 (in), 129 GND (power), 130 VCC (power), 135 GND (power), 144 VCC (power)

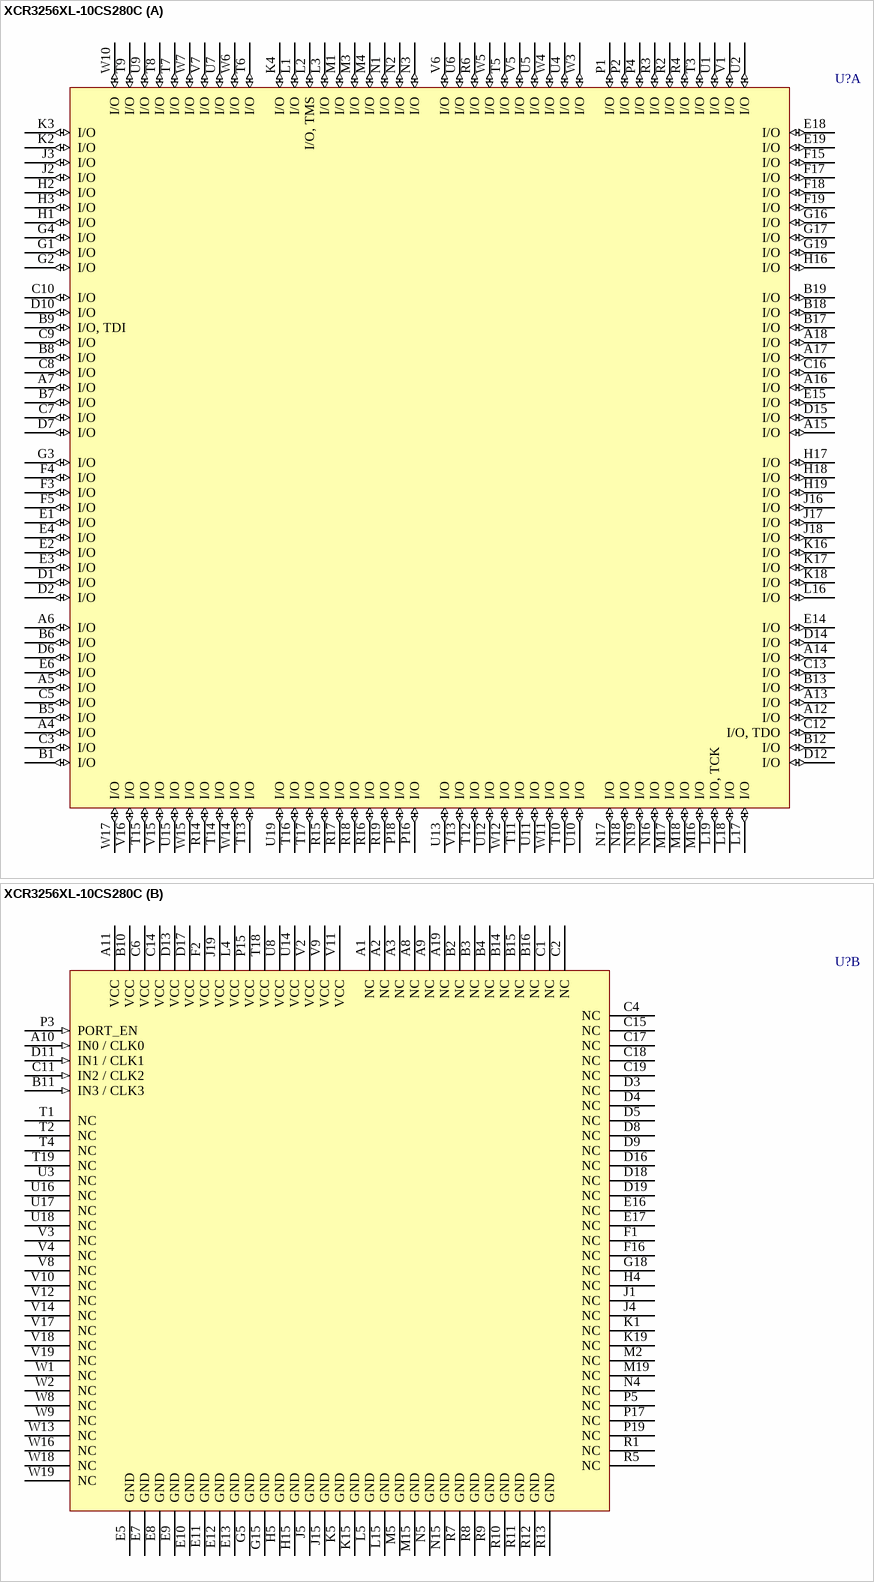
[diagram p12: symbol XCR3256XL-10CS280C]